# Altium schematic symbol library Vyrodov.SchLib: 217 symbols (part 2 of 2)
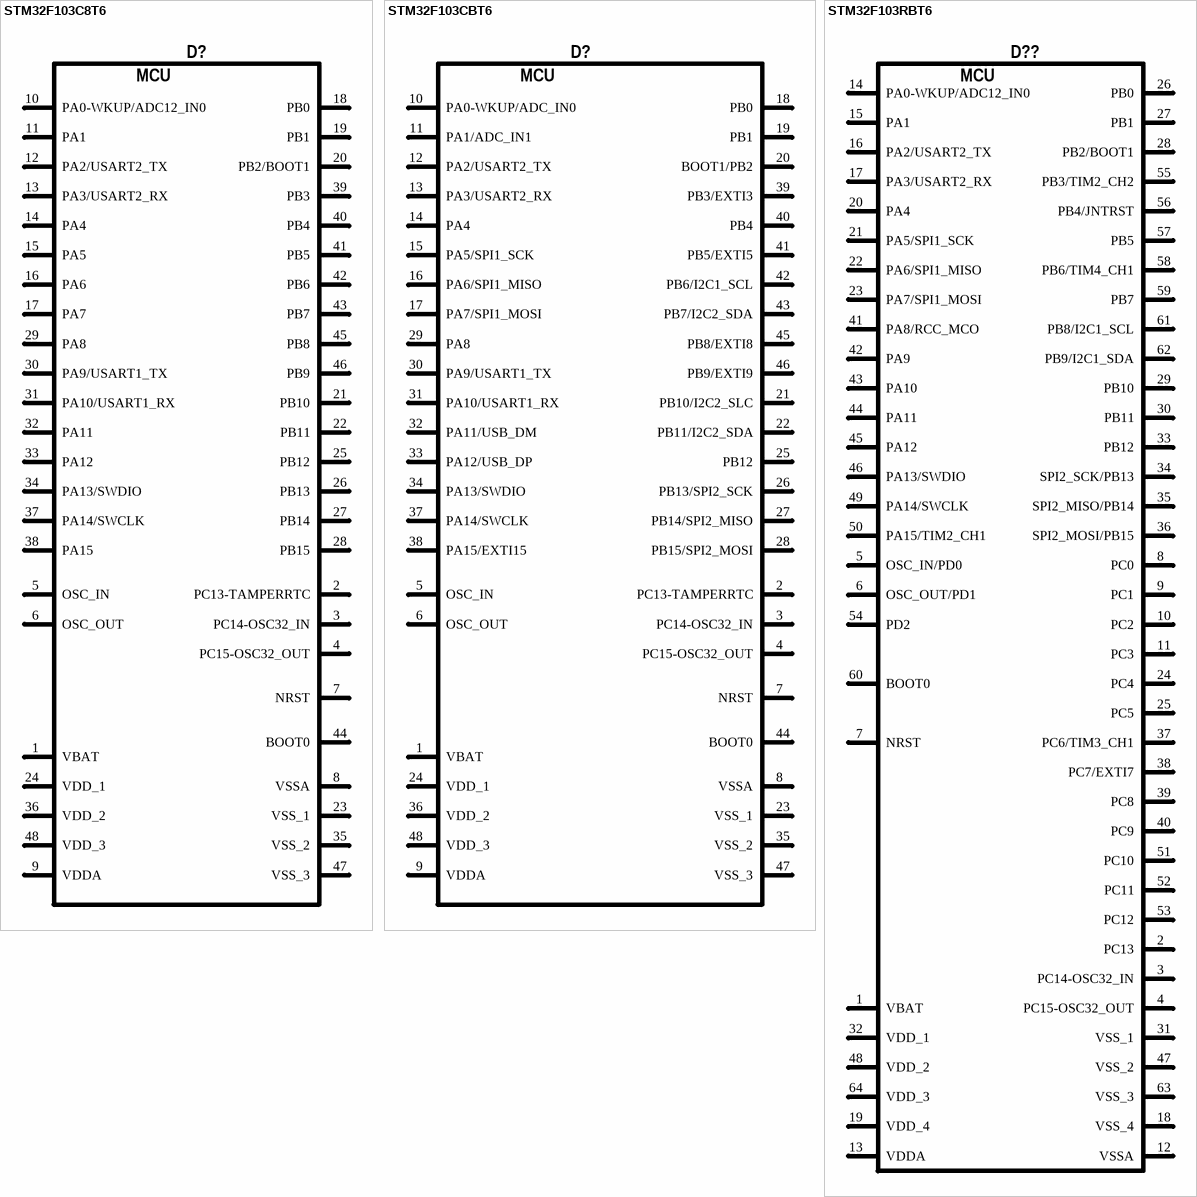
[diagram p29: symbols STM32F103C8T6 to STM32F103RBT6]

## STM32F103RBT6
designator D??  (value not drawn)
Value: STM32F103RBT6; SimpleValue: STM32F103RBT6
pins: 1 VBAT (power), 2 PC13, 3 PC14-OSC32_IN, 4 PC15-OSC32_OUT, 5 OSC_IN/PD0, 6 OSC_OUT/PD1, 7 NRST, 8 PC0, 9 PC1, 10 PC2, 11 PC3, 12 VSSA (power), 13 VDDA (power), 14 PA0-WKUP/ADC12_IN0, 15 PA1, 16 PA2/USART2_TX, 17 PA3/USART2_RX, 18 VSS_4 (power), 19 VDD_4 (power), 20 PA4, 21 PA5/SPI1_SCK, 22 PA6/SPI1_MISO, 23 PA7/SPI1_MOSI, 24 PC4, 25 PC5, 26 PB0, 27 PB1, 28 PB2/BOOT1, 29 PB10, 30 PB11, 31 VSS_1 (power), 32 VDD_1 (power), 33 PB12, 34 SPI2_SCK/PB13, 35 SPI2_MISO/PB14, 36 SPI2_MOSI/PB15, 37 PC6/TIM3_CH1, 38 PC7/EXTI7, 39 PC8, 40 PC9, 41 PA8/RCC_MCO, 42 PA9, 43 PA10, 44 PA11, 45 PA12, 46 PA13/SWDIO, 47 VSS_2 (power), 48 VDD_2 (power), 49 PA14/SWCLK, 50 PA15/TIM2_CH1, 51 PC10, 52 PC11, 53 PC12, 54 PD2, 55 PB3/TIM2_CH2, 56 PB4/JNTRST, 57 PB5, 58 PB6/TIM4_CH1, 59 PB7, 60 BOOT0, 61 PB8/I2C1_SCL, 62 PB9/I2C1_SDA, 63 VSS_3 (power), 64 VDD_3 (power)
text: MCU

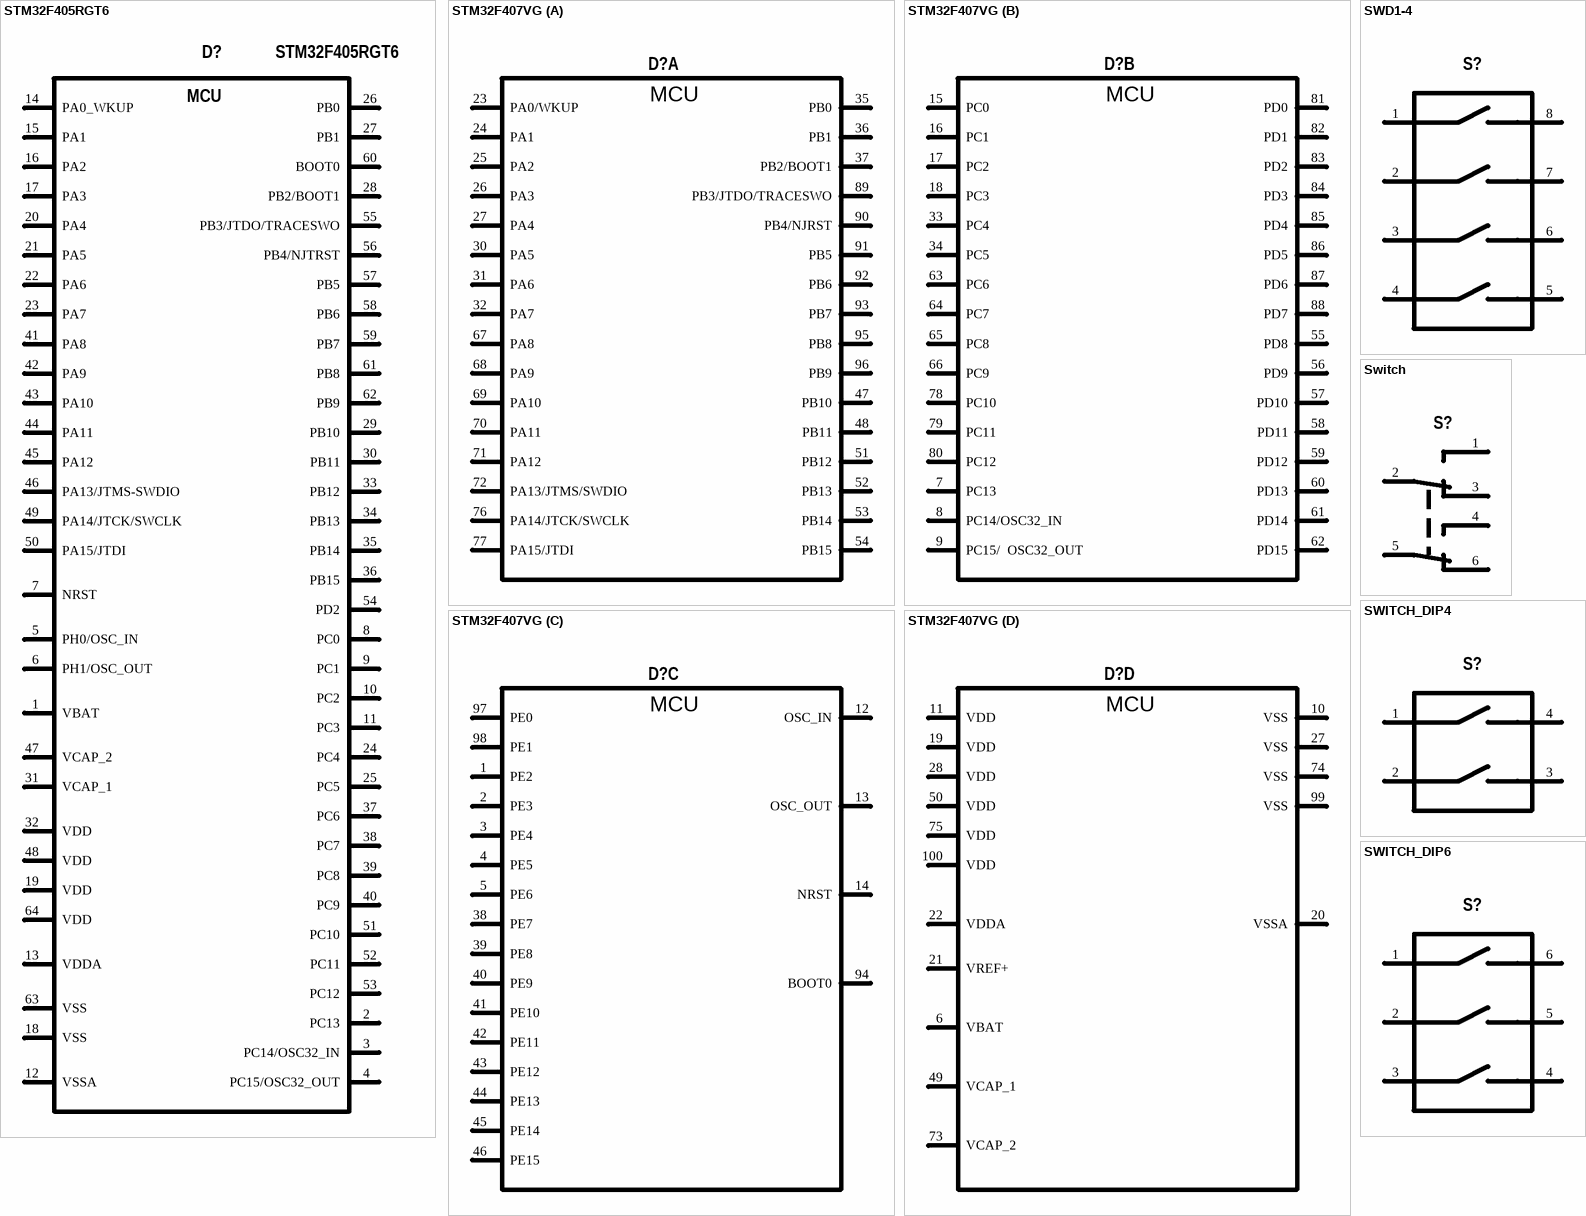
[diagram p17: symbols STM32F405RGT6 to SWITCH_DIP6]

## STM32F405RGT6
designator D?
Value: STM32F405RGT6
pins: 1 VBAT, 2 PC13, 3 PC14/OSC32_IN, 4 PC15/OSC32_OUT, 5 PH0/OSC_IN, 6 PH1/OSC_OUT, 7 NRST, 8 PC0, 9 PC1, 10 PC2, 11 PC3, 12 VSSA, 13 VDDA, 14 PA0_WKUP, 15 PA1, 16 PA2, 17 PA3, 18 VSS, 19 VDD, 20 PA4, 21 PA5, 22 PA6, 23 PA7, 24 PC4, 25 PC5, 26 PB0, 27 PB1, 28 PB2/BOOT1, 29 PB10, 30 PB11, 31 VCAP_1, 32 VDD, 33 PB12, 34 PB13, 35 PB14, 36 PB15, 37 PC6, 38 PC7, 39 PC8, 40 PC9, 41 PA8, 42 PA9, 43 PA10, 44 PA11, 45 PA12, 46 PA13/JTMS-SWDIO, 47 VCAP_2, 48 VDD, 49 PA14/JTCK/SWCLK, 50 PA15/JTDI, 51 PC10, 52 PC11, 53 PC12, 54 PD2, 55 PB3/JTDO/TRACESWO, 56 PB4/NJTRST, 57 PB5, 58 PB6, 59 PB7, 60 BOOT0, 61 PB8, 62 PB9, 63 VSS, 64 VDD
text: MCU

## STM32F407VG
designator D?, comment STM32F407VGT6  (value not drawn)
Value: STM32F407VGT6
part A pins: 23 PA0/WKUP, 24 PA1, 25 PA2, 26 PA3, 27 PA4, 30 PA5, 31 PA6, 32 PA7, 35 PB0, 36 PB1, 37 PB2/BOOT1, 47 PB10, 48 PB11, 51 PB12, 52 PB13, 53 PB14, 54 PB15, 67 PA8, 68 PA9, 69 PA10, 70 PA11, 71 PA12, 72 PA13/JTMS/SWDIO, 76 PA14/JTCK/SWCLK, 77 PA15/JTDI, 89 PB3/JTDO/TRACESWO, 90 PB4/NJRST, 91 PB5, 92 PB6, 93 PB7, 95 PB8, 96 PB9
part B pins: 7 PC13, 8 PC14/OSC32_IN, 9 PC15/  OSC32_OUT, 15 PC0, 16 PC1, 17 PC2, 18 PC3, 33 PC4, 34 PC5, 55 PD8, 56 PD9, 57 PD10, 58 PD11, 59 PD12, 60 PD13, 61 PD14, 62 PD15, 63 PC6, 64 PC7, 65 PC8, 66 PC9, 78 PC10, 79 PC11, 80 PC12, 81 PD0, 82 PD1, 83 PD2, 84 PD3, 85 PD4, 86 PD5, 87 PD6, 88 PD7
part C pins: 1 PE2, 2 PE3, 3 PE4, 4 PE5, 5 PE6, 12 OSC_IN, 13 OSC_OUT, 14 NRST, 38 PE7, 39 PE8, 40 PE9, 41 PE10, 42 PE11, 43 PE12, 44 PE13, 45 PE14, 46 PE15, 94 BOOT0, 97 PE0, 98 PE1
part D pins: 6 VBAT, 10 VSS, 11 VDD, 19 VDD, 20 VSSA, 21 VREF+, 22 VDDA, 27 VSS, 28 VDD, 49 VCAP_1, 50 VDD, 73 VCAP_2, 74 VSS, 75 VDD, 99 VSS, 100 VDD
part A text: MCU
part B text: MCU
part C text: MCU
part D text: MCU

## SWD1-4
designator S?, comment Выключатель SWD1-4  (value not drawn)
Value: Выключатель SWD1-4
footprint SWD1-4 (Footprint not found)
pins: 1, 2, 3, 4, 5, 6, 7, 8

## Switch
designator S?, comment Кнопка PBM-0112 (B170K)  (value not drawn)
Value: Кнопка PBM-0112 (B170K)
footprint SWT-9
pins: 1, 2, 3, 4, 5, 6

## SWITCH_DIP4
designator S?, comment DS1040-02RT  (value not drawn)
Value: DS1040-02RT
footprint SWD1-4 (Footprint not found)
pins: 1, 2, 3, 4

## SWITCH_DIP6
designator S?, comment DS1040-03RT  (value not drawn)
Value: DS1040-03RT
footprint SWD1-4 (Footprint not found)
pins: 1, 2, 3, 4, 5, 6

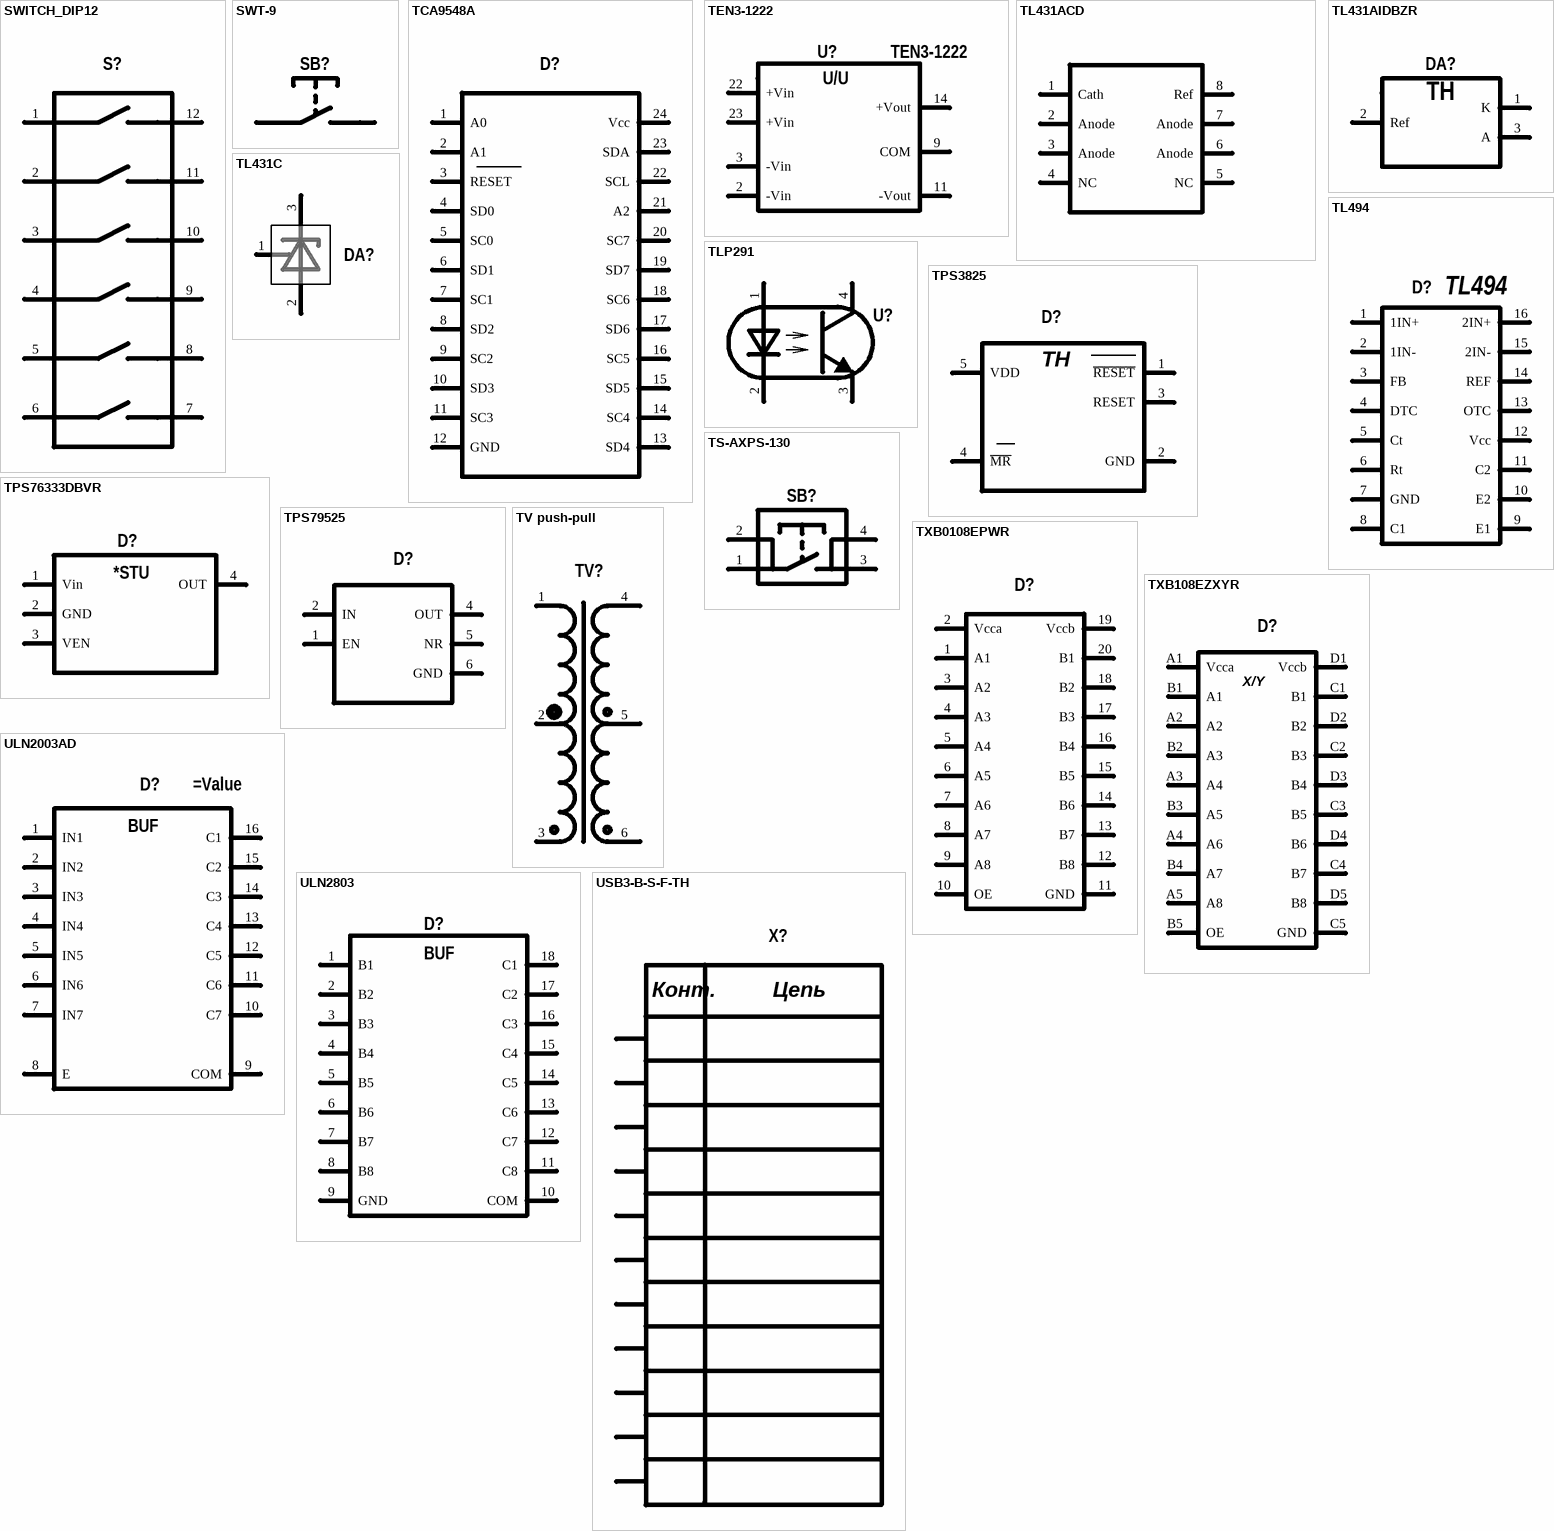
[diagram p18: symbols SWITCH_DIP12 to USB3-B-S-F-TH]

## SWITCH_DIP12
designator S?, comment DS1040-06RT  (value not drawn)
Value: DS1040-06RT
footprint SWD1-4 (Footprint not found)
pins: 1, 2, 3, 4, 5, 6, 7, 8, 9, 10, 11, 12

## SWT-9
designator SB?, comment Кнопка тактовая SWT-9  (value not drawn)
Value: Кнопка тактовая SWT-9
footprint SWT-9
pins: 1, 2

## TCA9548A
designator D?  (value not drawn)
Value: TCA9548APW
footprint PW-24 (TSOP, 24-Leads, Body 7,9x4,5mm (max), Pitch 0,65mm, IPC Medium Density)
pins: 1 A0, 2 A1, 3 RESET, 4 SD0, 5 SC0, 6 SD1, 7 SC1, 8 SD2, 9 SC2, 10 SD3, 11 SC3, 12 GND, 13 SD4, 14 SC4, 15 SD5, 16 SC5, 17 SD6, 18 SC6, 19 SD7, 20 SC7, 21 A2, 22 SCL, 23 SDA, 24 Vcc

## TEN3-1222
designator U?
Value: TEN3-1222
pins: 2 -Vin, 3 -Vin, 9 COM, 11 -Vout, 14 +Vout, 22 +Vin, 23 +Vin
text: U/U

## TL431ACD
designator D?  (value not drawn)
Type: TL431ACD; Value: TL431ACD
footprint 751-05_N (8-Pin Small Outline Integrated Circuit 1.27 mm Pitch, IPC Medium Density)
pins: 1 Cath, 2 Anode, 3 Anode, 4 NC, 5 NC, 6 Anode, 7 Anode, 8 Ref

## TL431AIDBZR
designator DA?  (value not drawn)
Value: TL431AIDBZR
footprint TO-92 (Footprint not found)
pins: 1 K, 2 Ref, 3 A
text: TH

## TL431C
designator DA?  (value not drawn)
Value: TL431C
footprint TO-92 (Footprint not found)
pins: 1 Ref, 2 A, 3 K

## TL494
designator D?  value TL494  (hidden comment: *)
footprint SO-16 (Footprint not found)
pins: 1 1IN+, 2 1IN-, 3 FB, 4 DTC, 5 Ct, 6 Rt, 7 GND, 8 C1, 9 E1, 10 E2, 11 C2, 12 Vcc, 13 OTC, 14 REF, 15 2IN-, 16 2IN+

## TLP291
designator U?  (value not drawn)
Opto Relay 35 Ohm 350 V; Vaue: TLP291
pins: 1 A, 2 K, 3 E, 4 C

## TPS3825
designator D?  (value not drawn)
Value: TPS3825-33DBVT
footprint SOT23-5AM (SOT23, 5-Leads, Body 2.9x1.7mm, Pitch 0.95mm, Lead Span 2.8mm, IPC Low Density)
pins: 1 ~{RESET}, 2 GND (power), 3 RESET, 4 ~{MR}, 5 VDD (power)
text: TH

## TPS76333DBVR
designator D?  (value not drawn)
Value: TPS76333DBVR
footprint DBV (Footprint not found)
pins: 1 Vin, 2 GND, 3 VEN, 4 OUT
text: *STU

## TPS79525
designator D?  (value not drawn)
footprint SOT223_6
pins: 1 EN, 2 IN, 3 GND hidden to GNDA, 4 OUT, 5 NR, 6 GND

## TS-AXPS-130
designator SB?, comment Кнопка тактовая TS-A3PS-130  (value not drawn)
Value: Кнопка тактовая TS-A3PS-130
footprint TS-AXPS-130
pins: 1, 2, 3, 4

## TV push-pull
designator TV?  (value not drawn)
Value: Trans Push-Pull
pins: 1, 2, 3, 4, 5, 6

## TXB0108EPWR
designator D?  (value not drawn)
footprint PW020 (Shrink Small Outline; 20 Leads; Body Width 4.4 mm; Pitch 0.65 mm)
pins: 1 A1, 2 Vcca, 3 A2, 4 A3, 5 A4, 6 A5, 7 A6, 8 A7, 9 A8, 10 OE, 11 GND, 12 B8, 13 B7, 14 B6, 15 B5, 16 B4, 17 B3, 18 B2, 19 Vccb, 20 B1

## TXB108EZXYR
designator D?, comment TXS108EZXYR  (value not drawn)
Value: TXS108EZXYR
pins: A1 Vcca, A2, A3 A4, A4 A6, A5 A8, B1 A1, B2 A3, B3 A5, B4 A7, B5 OE, C1 B1, C2 B3, C3 B5, C4 B7, C5 GND, D1 Vccb, D2 B2, D3 B4, D4 B6, D5 B8
text: X/Y

## ULN2003AD
designator D?
pins: 1 IN1, 2 IN2, 3 IN3, 4 IN4, 5 IN5, 6 IN6, 7 IN7, 8 E, 9 COM, 10 C7, 11 C6, 12 C5, 13 C4, 14 C3, 15 C2, 16 C1
text: BUF

## ULN2803
designator D?, comment ULN2803G  (value not drawn)
Value: ULN2803G
pins: 1 B1, 2 B2, 3 B3, 4 B4, 5 B5, 6 B6, 7 B7, 8 B8, 9 GND, 10 COM, 11 C8, 12 C7, 13 C6, 14 C5, 15 C4, 16 C3, 17 C2, 18 C1
text: BUF

## USB3-B-S-F-TH
designator X?  (value not drawn)
Value: Розетка USB3-B-S-F-TH
footprint USB3-B (Footprint not found)
pins: 1, 2, 3, 4, 5, 6, 7, 8, 9, 10, 11
text: Конт.; Цепь

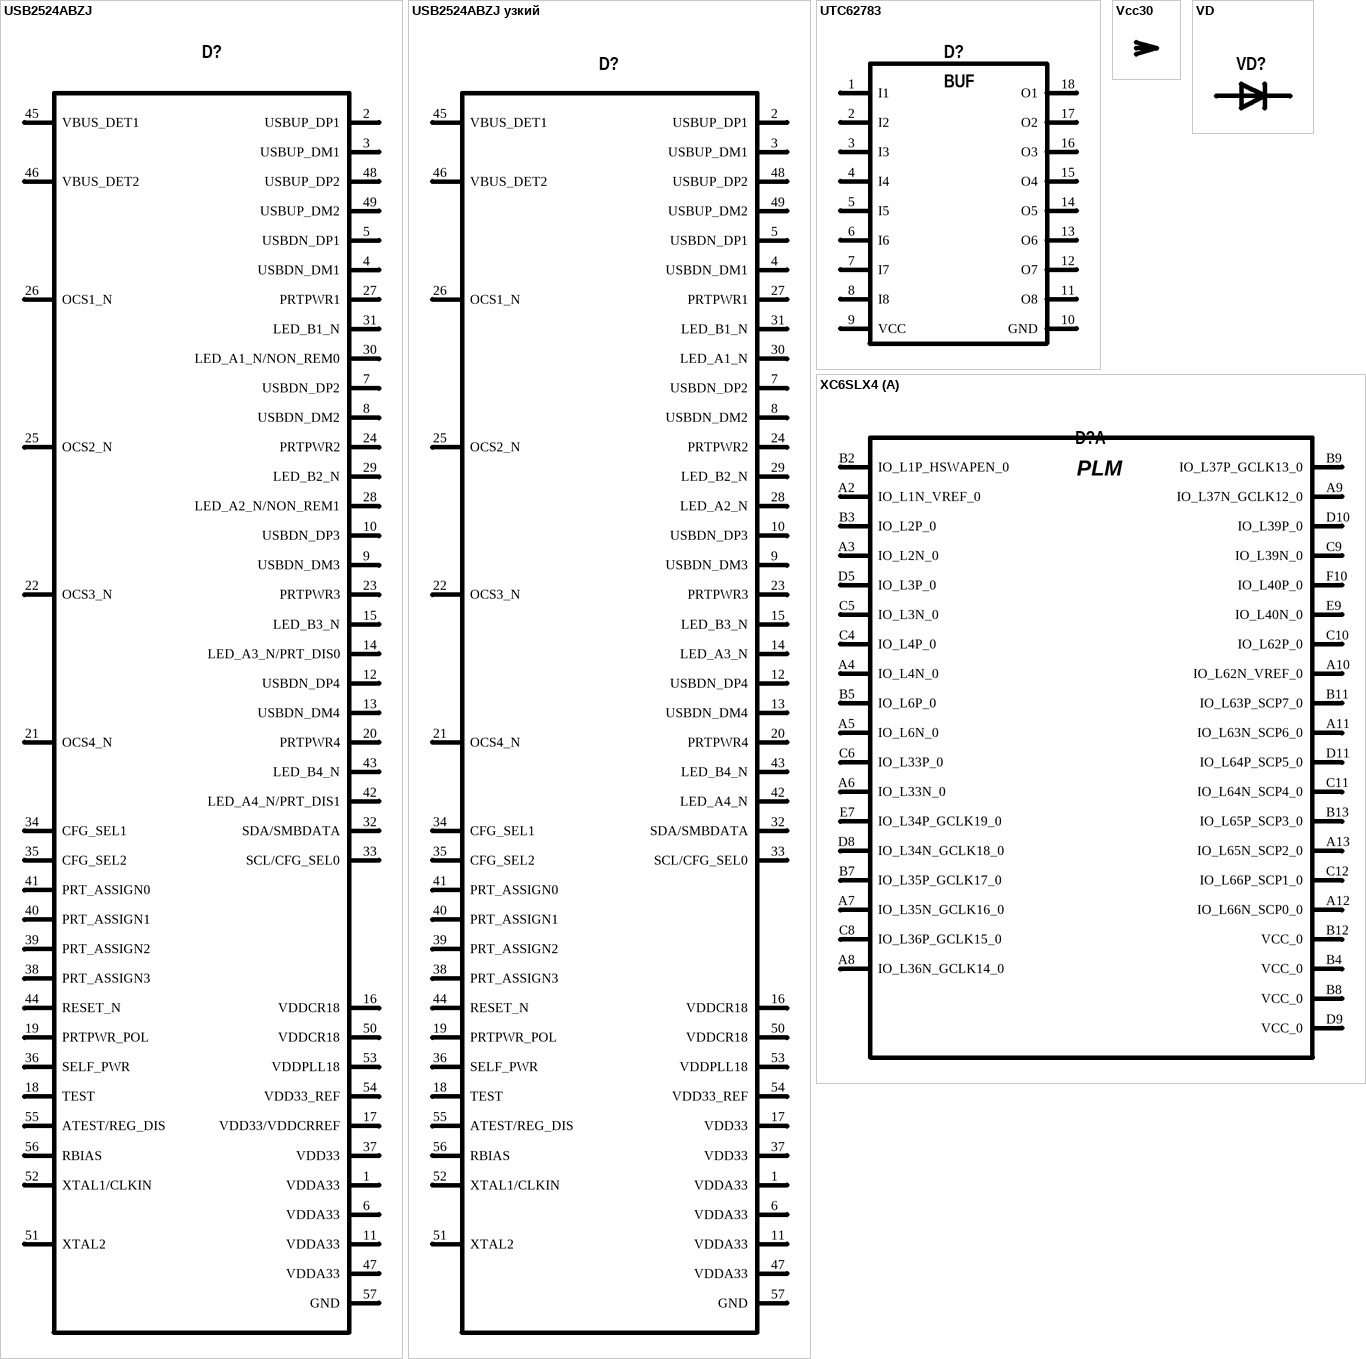
[diagram p19: symbols USB2524ABZJ to XC6SLX4]

## USB2524ABZJ
designator D?  (value not drawn)
Value: USB2524ABZJ
footprint QFN50P800X800X100-56N (QFN, 56-Leads, Body 8,1x8,1mm (max), Pitch 0,50mm, IPC Medium Density)
pins: 1 VDDA33, 2 USBUP_DP1, 3 USBUP_DM1, 4 USBDN_DM1, 5 USBDN_DP1, 6 VDDA33, 7 USBDN_DP2, 8 USBDN_DM2, 9 USBDN_DM3, 10 USBDN_DP3, 11 VDDA33, 12 USBDN_DP4, 13 USBDN_DM4, 14 LED_A3_N/PRT_DIS0, 15 LED_B3_N, 16 VDDCR18, 17 VDD33/VDDCRREF, 18 TEST, 19 PRTPWR_POL, 20 PRTPWR4, 21 OCS4_N, 22 OCS3_N, 23 PRTPWR3, 24 PRTPWR2, 25 OCS2_N, 26 OCS1_N, 27 PRTPWR1, 28 LED_A2_N/NON_REM1, 29 LED_B2_N, 30 LED_A1_N/NON_REM0, 31 LED_B1_N, 32 SDA/SMBDATA, 33 SCL/CFG_SEL0, 34 CFG_SEL1, 35 CFG_SEL2, 36 SELF_PWR, 37 VDD33, 38 PRT_ASSIGN3, 39 PRT_ASSIGN2, 40 PRT_ASSIGN1, 41 PRT_ASSIGN0, 42 LED_A4_N/PRT_DIS1, 43 LED_B4_N, 44 RESET_N, 45 VBUS_DET1, 46 VBUS_DET2, 47 VDDA33, 48 USBUP_DP2, 49 USBUP_DM2, 50 VDDCR18, 51 XTAL2, 52 XTAL1/CLKIN, 53 VDDPLL18, 54 VDD33_REF, 55 ATEST/REG_DIS, 56 RBIAS, 57 GND

## USB2524ABZJ узкий
designator D?, comment USB2524ABZJ  (value not drawn)
Value: USB2524ABZJ
footprint QFN50P800X800X100-56N (QFN, 56-Leads, Body 8,1x8,1mm (max), Pitch 0,50mm, IPC Medium Density)
pins: 1 VDDA33, 2 USBUP_DP1, 3 USBUP_DM1, 4 USBDN_DM1, 5 USBDN_DP1, 6 VDDA33, 7 USBDN_DP2, 8 USBDN_DM2, 9 USBDN_DM3, 10 USBDN_DP3, 11 VDDA33, 12 USBDN_DP4, 13 USBDN_DM4, 14 LED_A3_N, 15 LED_B3_N, 16 VDDCR18, 17 VDD33, 18 TEST, 19 PRTPWR_POL, 20 PRTPWR4, 21 OCS4_N, 22 OCS3_N, 23 PRTPWR3, 24 PRTPWR2, 25 OCS2_N, 26 OCS1_N, 27 PRTPWR1, 28 LED_A2_N, 29 LED_B2_N, 30 LED_A1_N, 31 LED_B1_N, 32 SDA/SMBDATA, 33 SCL/CFG_SEL0, 34 CFG_SEL1, 35 CFG_SEL2, 36 SELF_PWR, 37 VDD33, 38 PRT_ASSIGN3, 39 PRT_ASSIGN2, 40 PRT_ASSIGN1, 41 PRT_ASSIGN0, 42 LED_A4_N, 43 LED_B4_N, 44 RESET_N, 45 VBUS_DET1, 46 VBUS_DET2, 47 VDDA33, 48 USBUP_DP2, 49 USBUP_DM2, 50 VDDCR18, 51 XTAL2, 52 XTAL1/CLKIN, 53 VDDPLL18, 54 VDD33_REF, 55 ATEST/REG_DIS, 56 RBIAS, 57 GND

## UTC62783
designator D?, comment UTC62783G  (value not drawn)
Value: UTC62783G
pins: 1 I1, 2 I2, 3 I3, 4 I4, 5 I5, 6 I6, 7 I7, 8 I8, 9 VCC, 10 GND, 11 O8, 12 O7, 13 O6, 14 O5, 15 O4, 16 O3, 17 O2, 18 O1
text: BUF

## Vcc30
designator *  (value not drawn)  (graphical)

## VD
designator VD?  (value not drawn)
Value: Диод LL4448
footprint SOD80C
pins: A, K

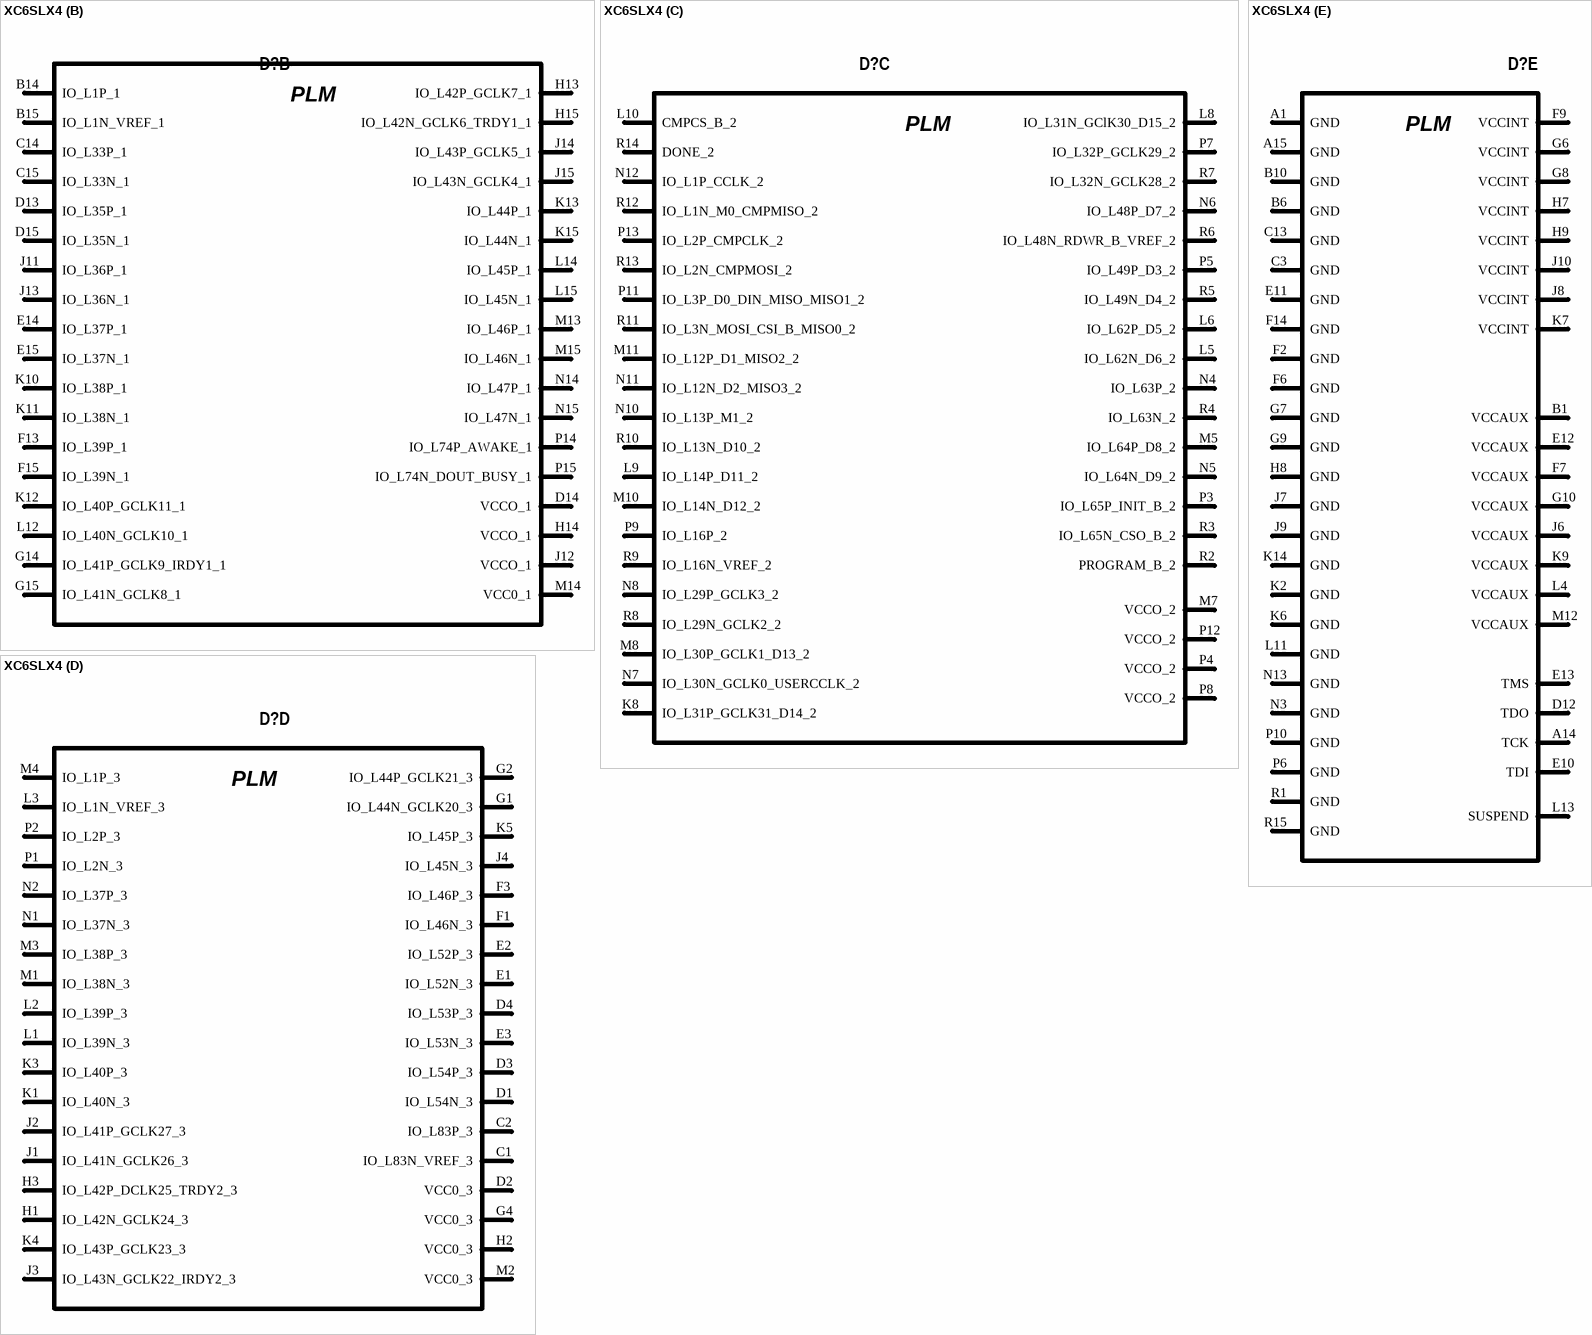
[diagram p20: symbol XC6SLX4]

## XC6SLX4
designator D?  (value not drawn)
Value: XC6SLX4-3CSG225
footprint CSG225 (Footprint not found)
part A pins: A2 IO_L1N_VREF_0, A3 IO_L2N_0, A4 IO_L4N_0, A5 IO_L6N_0, A6 IO_L33N_0, A7 IO_L35N_GCLK16_0, A8 IO_L36N_GCLK14_0, A9 IO_L37N_GCLK12_0, A10 IO_L62N_VREF_0, A11 IO_L63N_SCP6_0, A12 IO_L66N_SCP0_0, A13 IO_L65N_SCP2_0, B2 IO_L1P_HSWAPEN_0, B3 IO_L2P_0, B4 VCC_0, B5 IO_L6P_0, B7 IO_L35P_GCLK17_0, B8 VCC_0, B9 IO_L37P_GCLK13_0, B11 IO_L63P_SCP7_0, B12 VCC_0, B13 IO_L65P_SCP3_0, C4 IO_L4P_0, C5 IO_L3N_0, C6 IO_L33P_0, C8 IO_L36P_GCLK15_0, C9 IO_L39N_0, C10 IO_L62P_0, C11 IO_L64N_SCP4_0, C12 IO_L66P_SCP1_0, D5 IO_L3P_0, D8 IO_L34N_GCLK18_0, D9 VCC_0, D10 IO_L39P_0, D11 IO_L64P_SCP5_0, E7 IO_L34P_GCLK19_0, E9 IO_L40N_0, F10 IO_L40P_0
part B pins: B14 IO_L1P_1, B15 IO_L1N_VREF_1, C14 IO_L33P_1, C15 IO_L33N_1, D13 IO_L35P_1, D14 VCCO_1, D15 IO_L35N_1, E14 IO_L37P_1, E15 IO_L37N_1, F13 IO_L39P_1, F15 IO_L39N_1, G14 IO_L41P_GCLK9_IRDY1_1, G15 IO_L41N_GCLK8_1, H13 IO_L42P_GCLK7_1, H14 VCCO_1, H15 IO_L42N_GCLK6_TRDY1_1, J11 IO_L36P_1, J12 VCCO_1, J13 IO_L36N_1, J14 IO_L43P_GCLK5_1, J15 IO_L43N_GCLK4_1, K10 IO_L38P_1, K11 IO_L38N_1, K12 IO_L40P_GCLK11_1, K13 IO_L44P_1, K15 IO_L44N_1, L12 IO_L40N_GCLK10_1, L14 IO_L45P_1, L15 IO_L45N_1, M13 IO_L46P_1, M14 VCC0_1, M15 IO_L46N_1, N14 IO_L47P_1, N15 IO_L47N_1, P14 IO_L74P_AWAKE_1, P15 IO_L74N_DOUT_BUSY_1
part C pins: K8 IO_L31P_GCLK31_D14_2, L5 IO_L62N_D6_2, L6 IO_L62P_D5_2, L8 IO_L31N_GClK30_D15_2, L9 IO_L14P_D11_2, L10 CMPCS_B_2, M5 IO_L64P_D8_2, M7 VCCO_2, M8 IO_L30P_GCLK1_D13_2, M10 IO_L14N_D12_2, M11 IO_L12P_D1_MISO2_2, N4 IO_L63P_2, N5 IO_L64N_D9_2, N6 IO_L48P_D7_2, N7 IO_L30N_GCLK0_USERCCLK_2, N8 IO_L29P_GCLK3_2, N10 IO_L13P_M1_2, N11 IO_L12N_D2_MISO3_2, N12 IO_L1P_CCLK_2, P3 IO_L65P_INIT_B_2, P4 VCCO_2, P5 IO_L49P_D3_2, P7 IO_L32P_GCLK29_2, P8 VCCO_2, P9 IO_L16P_2, P11 IO_L3P_D0_DIN_MISO_MISO1_2, P12 VCCO_2, P13 IO_L2P_CMPCLK_2, R2 PROGRAM_B_2, R3 IO_L65N_CSO_B_2, R4 IO_L63N_2, R5 IO_L49N_D4_2, R6 IO_L48N_RDWR_B_VREF_2, R7 IO_L32N_GCLK28_2, R8 IO_L29N_GCLK2_2, R9 IO_L16N_VREF_2, R10 IO_L13N_D10_2, R11 IO_L3N_MOSI_CSI_B_MISO0_2, R12 IO_L1N_M0_CMPMISO_2, R13 IO_L2N_CMPMOSI_2, R14 DONE_2
part D pins: C1 IO_L83N_VREF_3, C2 IO_L83P_3, D1 IO_L54N_3, D2 VCC0_3, D3 IO_L54P_3, D4 IO_L53P_3, E1 IO_L52N_3, E2 IO_L52P_3, E3 IO_L53N_3, F1 IO_L46N_3, F3 IO_L46P_3, G1 IO_L44N_GCLK20_3, G2 IO_L44P_GCLK21_3, G4 VCC0_3, H1 IO_L42N_GCLK24_3, H2 VCC0_3, H3 IO_L42P_DCLK25_TRDY2_3, J1 IO_L41N_GCLK26_3, J2 IO_L41P_GCLK27_3, J3 IO_L43N_GCLK22_IRDY2_3, J4 IO_L45N_3, K1 IO_L40N_3, K3 IO_L40P_3, K4 IO_L43P_GCLK23_3, K5 IO_L45P_3, L1 IO_L39N_3, L2 IO_L39P_3, L3 IO_L1N_VREF_3, M1 IO_L38N_3, M2 VCC0_3, M3 IO_L38P_3, M4 IO_L1P_3, N1 IO_L37N_3, N2 IO_L37P_3, P1 IO_L2N_3, P2 IO_L2P_3
part E pins: A1 GND, A14 TCK, A15 GND, B1 VCCAUX, B6 GND, B10 GND, C3 GND, C13 GND, D12 TDO, E10 TDI, E11 GND, E12 VCCAUX, E13 TMS, F2 GND, F6 GND, F7 VCCAUX, F9 VCCINT, F14 GND, G6 VCCINT, G7 GND, G8 VCCINT, G9 GND, G10 VCCAUX, H7 VCCINT, H8 GND, H9 VCCINT, J6 VCCAUX, J7 GND, J8 VCCINT, J9 GND, J10 VCCINT, K2 GND, K6 GND, K7 VCCINT, K9 VCCAUX, K14 GND, L4 VCCAUX, L11 GND, L13 SUSPEND, M12 VCCAUX, N3 GND, N13 GND, P6 GND, P10 GND, R1 GND, R15 GND
part A text: PLM
part B text: PLM
part C text: PLM
part D text: PLM
part E text: PLM

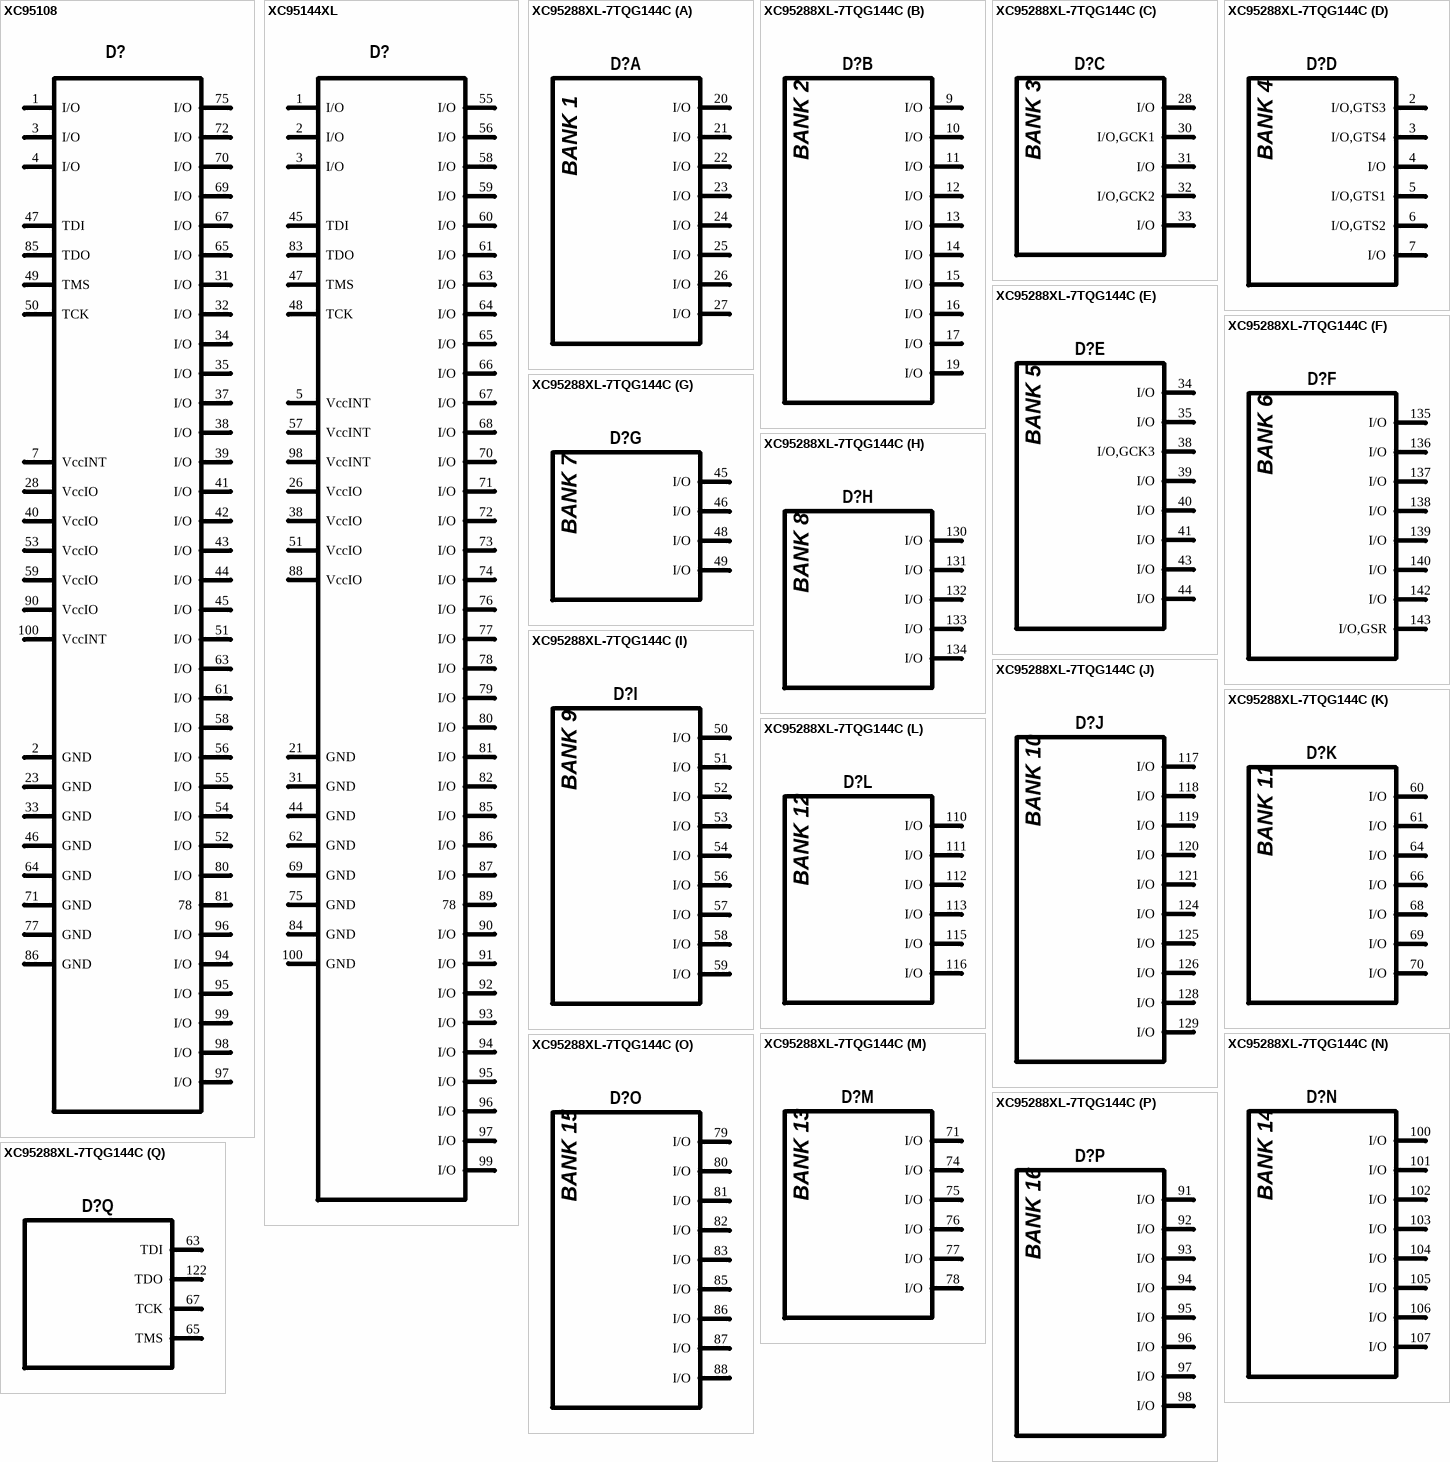
[diagram p21: symbols XC95108 to XC95288XL-7TQG144C]

## XC95108
designator D?  (value not drawn)
Value: XC95108
pins: 1 I/O, 2 GND, 3 I/O, 4 I/O, 7 VccINT, 23 GND, 28 VccIO, 31 I/O, 32 I/O, 33 GND, 34 I/O, 35 I/O, 37 I/O, 38 I/O, 39 I/O, 40 VccIO, 41 I/O, 42 I/O, 43 I/O, 44 I/O, 45 I/O, 46 GND, 47 TDI, 49 TMS, 50 TCK, 51 I/O, 52 I/O, 53 VccIO, 54 I/O, 55 I/O, 56 I/O, 58 I/O, 59 VccIO, 61 I/O, 63 I/O, 64 GND, 65 I/O, 67 I/O, 69 I/O, 70 I/O, 71 GND, 72 I/O, 75 I/O, 77 GND, 80 I/O, 81 78, 85 TDO, 86 GND, 90 VccIO, 94 I/O, 95 I/O, 96 I/O, 97 I/O, 98 I/O, 99 I/O, 100 VccINT

## XC95144XL
designator D?, comment XC95144  (value not drawn)
Value: XC95144
pins: 1 I/O, 2 I/O, 3 I/O, 5 VccINT, 21 GND, 26 VccIO, 31 GND, 38 VccIO, 44 GND, 45 TDI, 47 TMS, 48 TCK, 51 VccIO, 55 I/O, 56 I/O, 57 VccINT, 58 I/O, 59 I/O, 60 I/O, 61 I/O, 62 GND, 63 I/O, 64 I/O, 65 I/O, 66 I/O, 67 I/O, 68 I/O, 69 GND, 70 I/O, 71 I/O, 72 I/O, 73 I/O, 74 I/O, 75 GND, 76 I/O, 77 I/O, 78 I/O, 79 I/O, 80 I/O, 81 I/O, 82 I/O, 83 TDO, 84 GND, 85 I/O, 86 I/O, 87 I/O, 88 VccIO, 89 78, 90 I/O, 91 I/O, 92 I/O, 93 I/O, 94 I/O, 95 I/O, 96 I/O, 97 I/O, 98 VccINT, 99 I/O, 100 GND

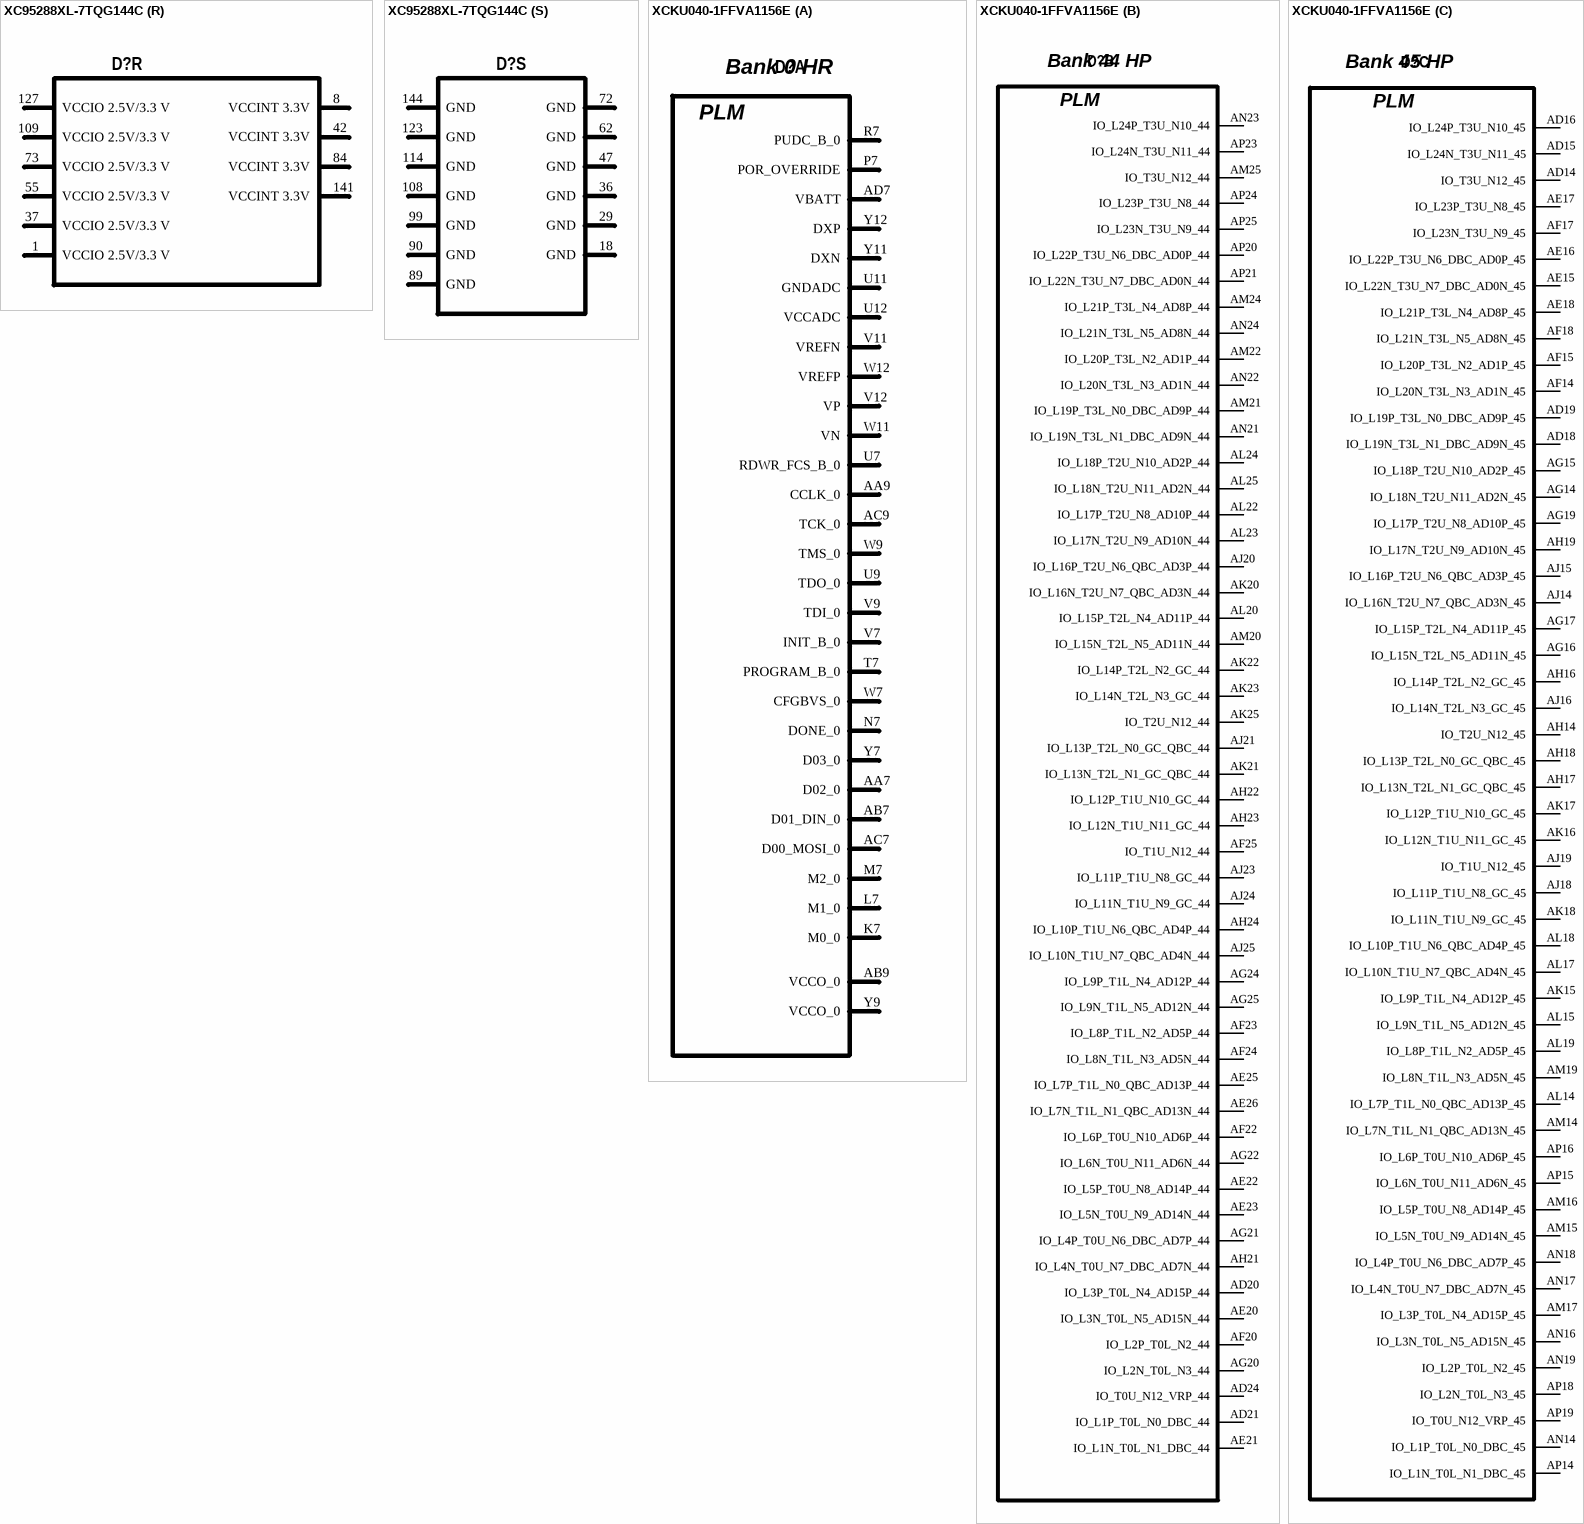
[diagram p22: symbols XC95288XL-7TQG144C to XCKU040-1FFVA1156E]

## XC95288XL-7TQG144C
designator D?  (value not drawn)
FastFLASH XC900XL, 3.3V High-Performance 288 Macrocell CPLD, 117 User I/Os, 144-Pin TQFP, Speed Grade 7, Commercial Grade, Pb-Free; DatasheetVersion: ver2.1, Apr-2007; PackageVersion: ver1.2, Jun-2004; PackageReference: TQG144; PackageDescription: 144-Pin Thin Quad Flat Pack (TQG144) - Pb-Free; Code_JEDEC: MS-026-BFB; ComponentLink1Description: Manufacturer URL; ComponentLink1URL: http://www.xilinx.com/; ComponentLink2Description: XC95288XL Datasheet; ComponentLink2URL: http://www.xilinx.com/support/documentation/data_sheets/ds055.pdf; ComponentLink3Description: TQG144 Package Drawing; ComponentLink3URL: http://www.xilinx.com/support/documentation/package_specs/tq144.pdf; ComponentLink4Description: XC9500XL Documents; ComponentLink4URL: http://www.xilinx.com/support/documentation/xc9500xl.htm; Value: XC95288XL-7TQG144C
footprint TQG144_N (Thin QFP, 144-Leads, Body 20x20mm, Pitch 0.5mm, IPC Medium Density)
footprint TQG144_L (Thin QFP, 144-Leads, Body 20x20mm, Pitch 0.5mm, IPC High Density)
footprint TQG144_M (Thin QFP, 144-Leads, Body 20x20mm, Pitch 0.5mm, IPC Low Density)
part A pins: 20 I/O, 21 I/O, 22 I/O, 23 I/O, 24 I/O, 25 I/O, 26 I/O, 27 I/O
part B pins: 9 I/O, 10 I/O, 11 I/O, 12 I/O, 13 I/O, 14 I/O, 15 I/O, 16 I/O, 17 I/O, 19 I/O
part C pins: 28 I/O, 30 I/O,GCK1, 31 I/O, 32 I/O,GCK2, 33 I/O
part D pins: 2 I/O,GTS3, 3 I/O,GTS4, 4 I/O, 5 I/O,GTS1, 6 I/O,GTS2, 7 I/O
part E pins: 34 I/O, 35 I/O, 38 I/O,GCK3, 39 I/O, 40 I/O, 41 I/O, 43 I/O, 44 I/O
part F pins: 135 I/O, 136 I/O, 137 I/O, 138 I/O, 139 I/O, 140 I/O, 142 I/O, 143 I/O,GSR
part G pins: 45 I/O, 46 I/O, 48 I/O, 49 I/O
part H pins: 130 I/O, 131 I/O, 132 I/O, 133 I/O, 134 I/O
part I pins: 50 I/O, 51 I/O, 52 I/O, 53 I/O, 54 I/O, 56 I/O, 57 I/O, 58 I/O, 59 I/O
part J pins: 117 I/O, 118 I/O, 119 I/O, 120 I/O, 121 I/O, 124 I/O, 125 I/O, 126 I/O, 128 I/O, 129 I/O
part K pins: 60 I/O, 61 I/O, 64 I/O, 66 I/O, 68 I/O, 69 I/O, 70 I/O
part L pins: 110 I/O, 111 I/O, 112 I/O, 113 I/O, 115 I/O, 116 I/O
part M pins: 71 I/O, 74 I/O, 75 I/O, 76 I/O, 77 I/O, 78 I/O
part N pins: 100 I/O, 101 I/O, 102 I/O, 103 I/O, 104 I/O, 105 I/O, 106 I/O, 107 I/O
part O pins: 79 I/O, 80 I/O, 81 I/O, 82 I/O, 83 I/O, 85 I/O, 86 I/O, 87 I/O, 88 I/O
part P pins: 91 I/O, 92 I/O, 93 I/O, 94 I/O, 95 I/O, 96 I/O, 97 I/O, 98 I/O
part Q pins: 63 TDI, 65 TMS, 67 TCK, 122 TDO
part R pins: 1 VCCIO 2.5V/3.3 V (power), 8 VCCINT 3.3V (power), 37 VCCIO 2.5V/3.3 V (power), 42 VCCINT 3.3V (power), 55 VCCIO 2.5V/3.3 V (power), 73 VCCIO 2.5V/3.3 V (power), 84 VCCINT 3.3V (power), 109 VCCIO 2.5V/3.3 V (power), 127 VCCIO 2.5V/3.3 V (power), 141 VCCINT 3.3V (power)
part S pins: 18 GND (power), 29 GND (power), 36 GND (power), 47 GND (power), 62 GND (power), 72 GND (power), 89 GND (power), 90 GND (power), 99 GND (power), 108 GND (power), 114 GND (power), 123 GND (power), 144 GND (power)
part A text: BANK 1
part B text: BANK 2
part C text: BANK 3
part D text: BANK 4
part E text: BANK 5
part F text: BANK 6
part G text: BANK 7
part H text: BANK 8
part I text: BANK 9
part J text: BANK 10
part K text: BANK 11
part L text: BANK 12
part M text: BANK 13
part N text: BANK 14
part O text: BANK 15
part P text: BANK 16

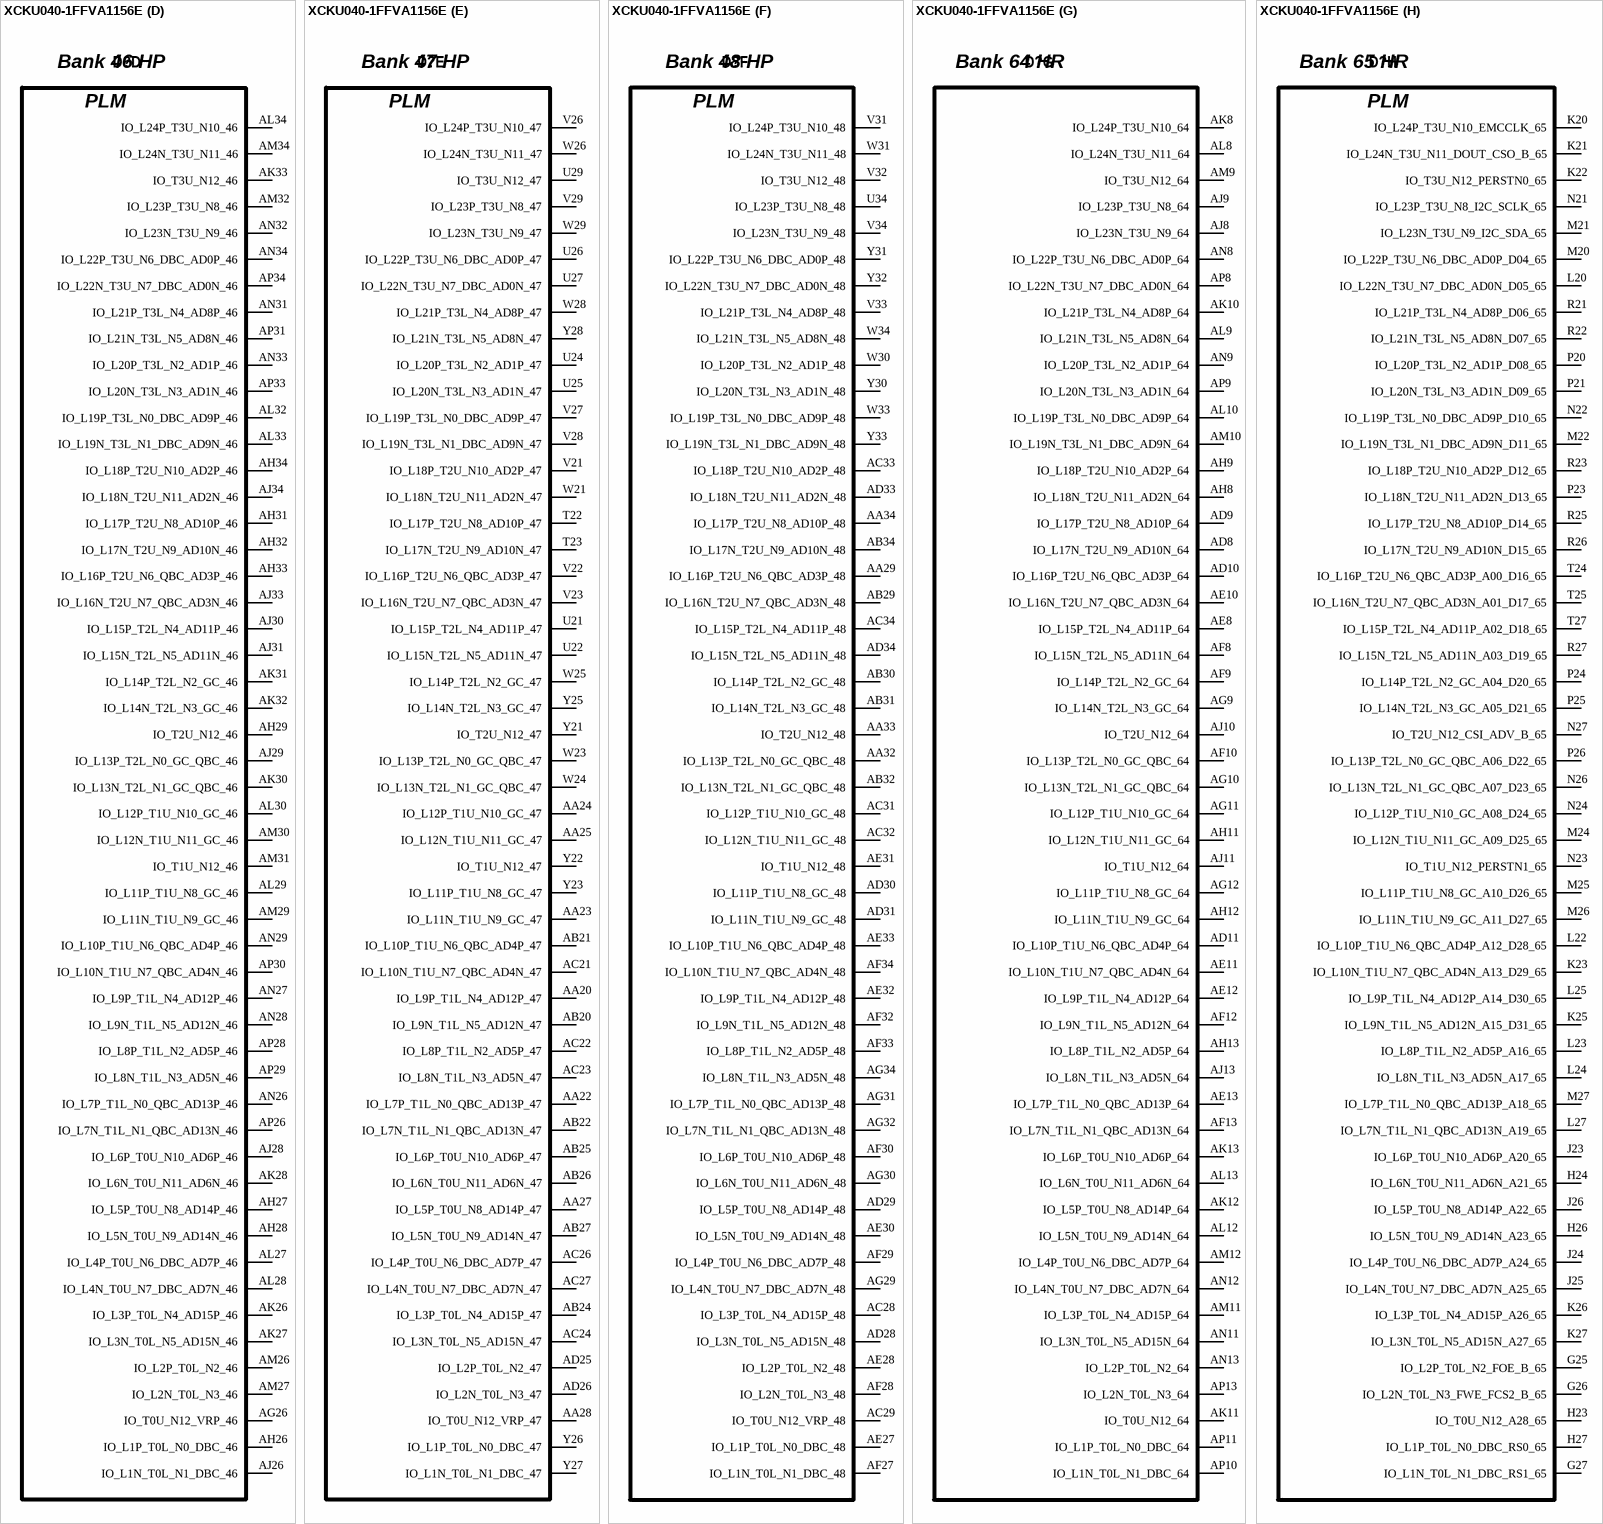
[diagram p23: symbol XCKU040-1FFVA1156E]

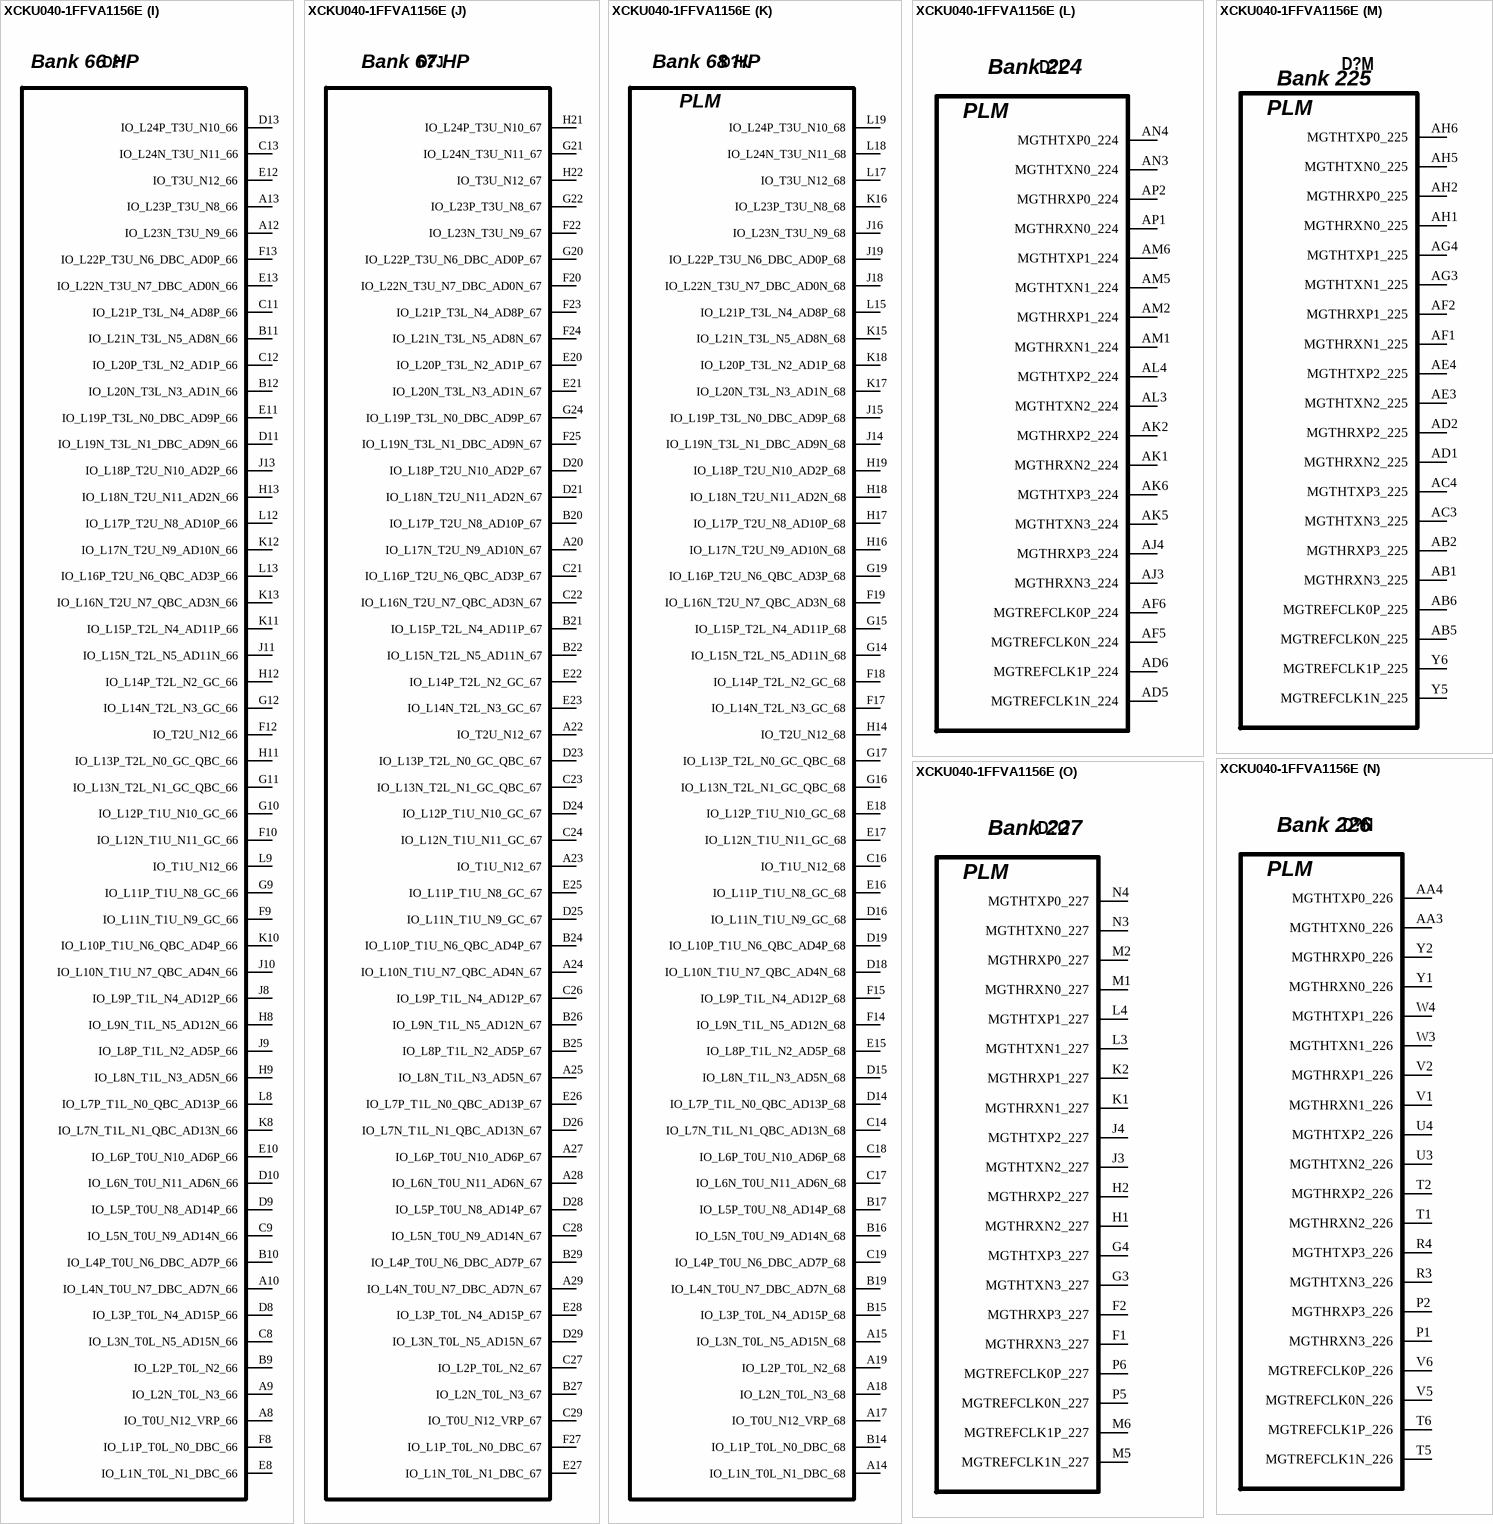
[diagram p24: symbol XCKU040-1FFVA1156E]

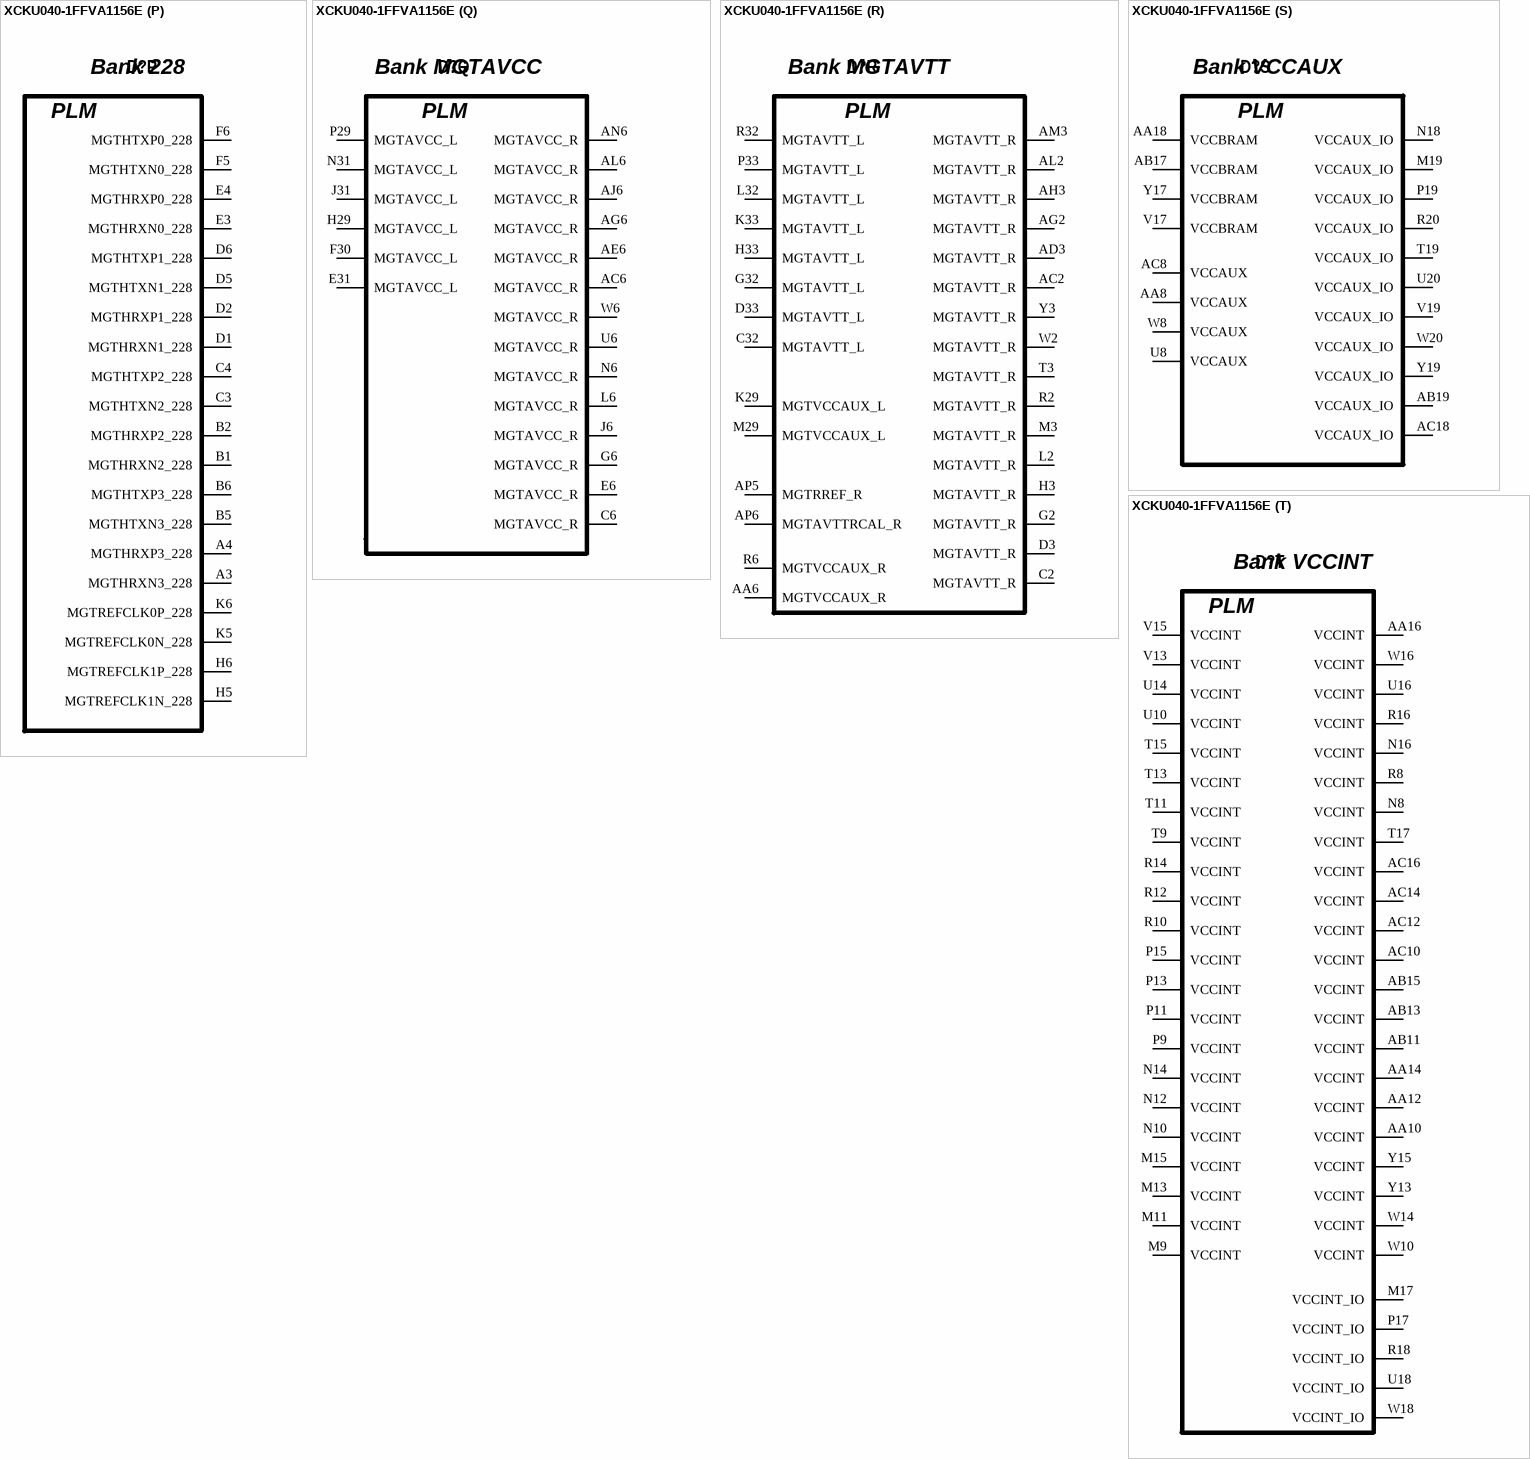
[diagram p25: symbol XCKU040-1FFVA1156E]

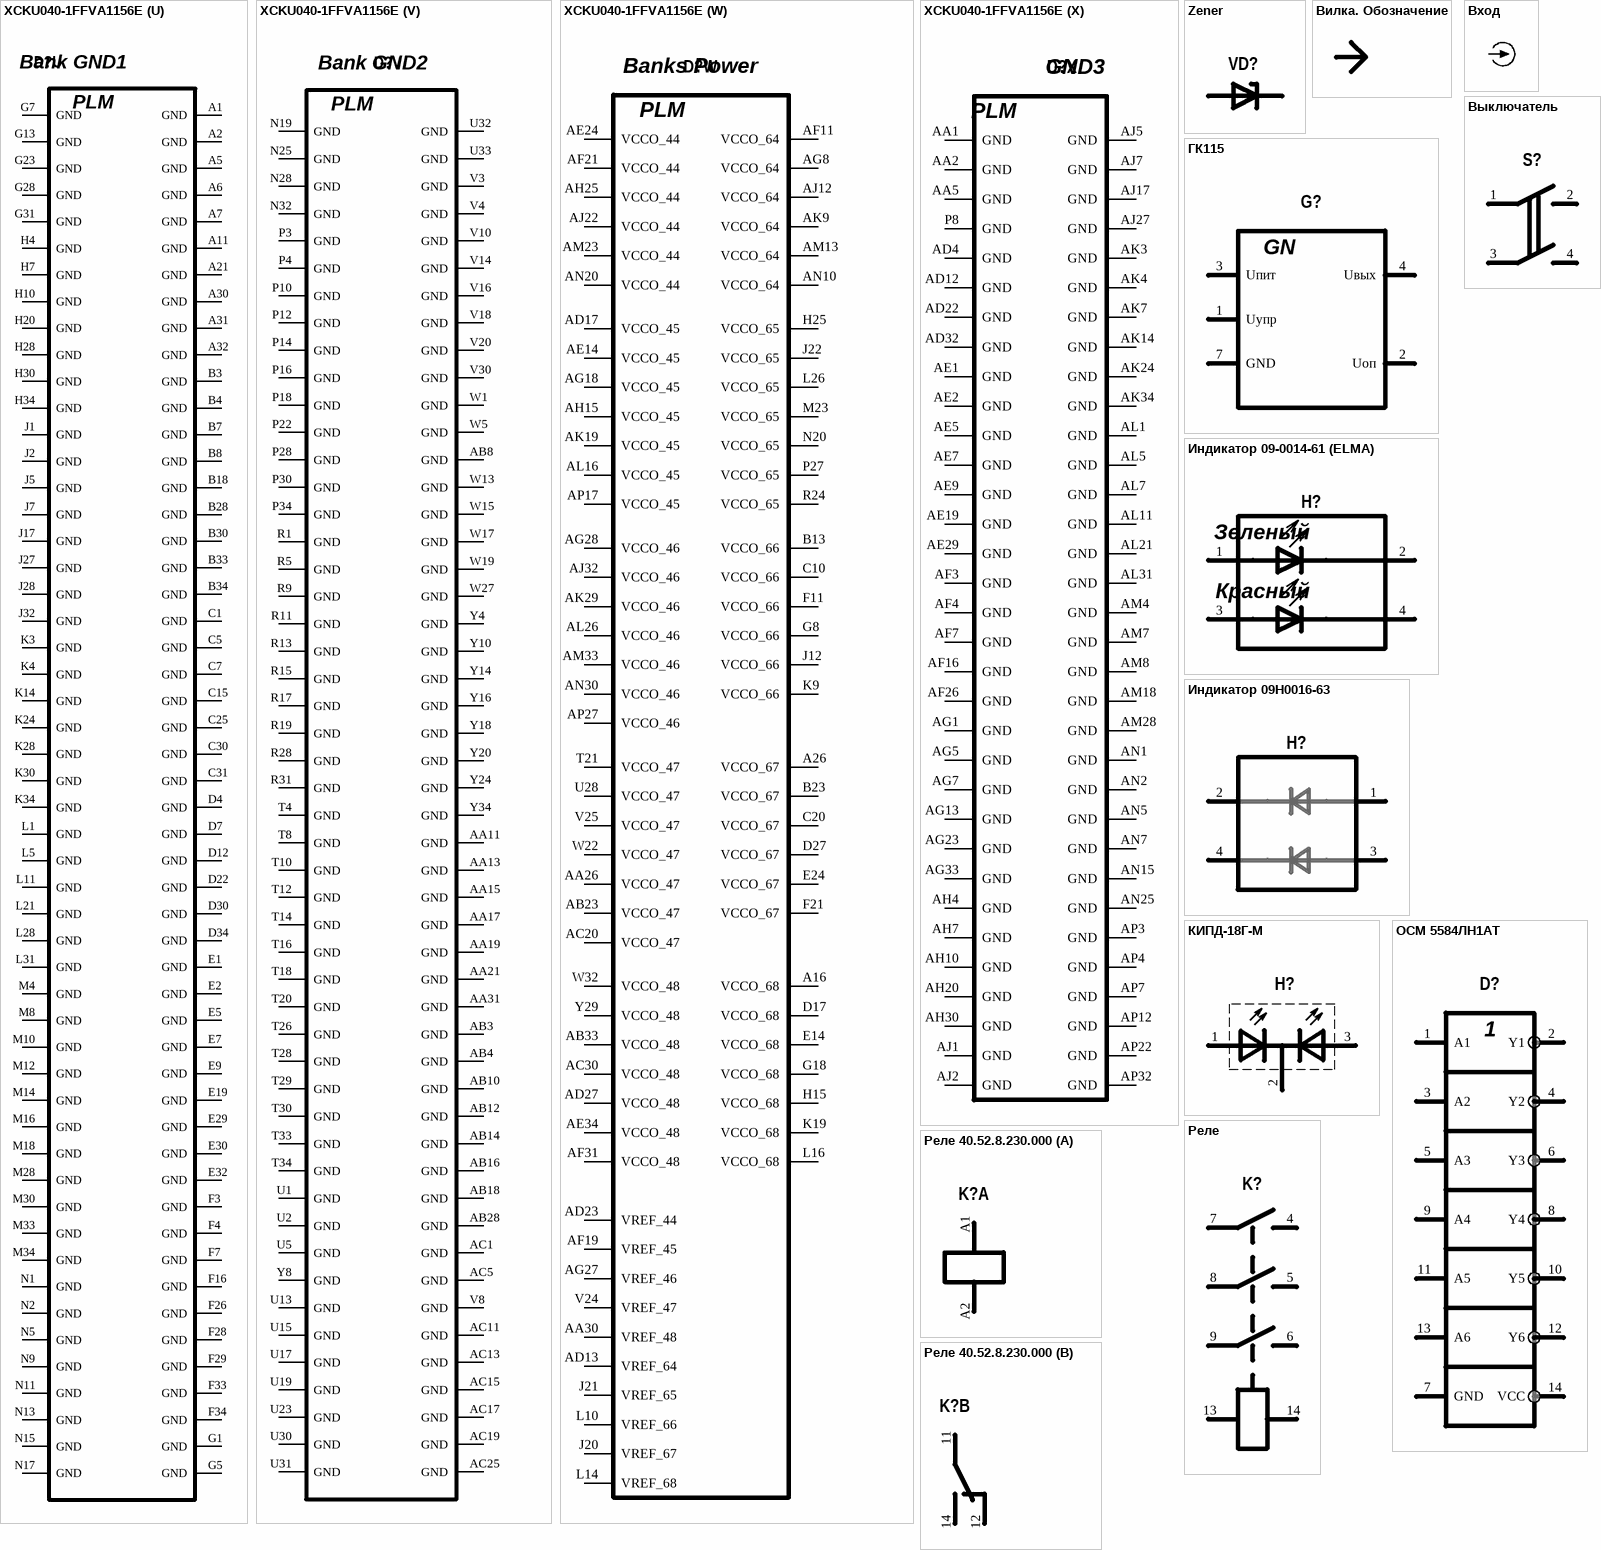
[diagram p26: symbols XCKU040-1FFVA1156E to Реле 40.52.8.230.000]

## XCKU040-1FFVA1156E
designator D?  (value not drawn)
Kintex UltraScale; Value: XCKU040-1FFVA1156E
footprint FFVA1156 (Footprint not found)
part A pins: AA7 D02_0, AA9 CCLK_0, AB7 D01_DIN_0, AB9 VCCO_0, AC7 D00_MOSI_0, AC9 TCK_0, AD7 VBATT, K7 M0_0, L7 M1_0, M7 M2_0, N7 DONE_0, P7 POR_OVERRIDE, R7 PUDC_B_0, T7 PROGRAM_B_0, U7 RDWR_FCS_B_0, U9 TDO_0, U11 GNDADC, U12 VCCADC, V7 INIT_B_0, V9 TDI_0, V11 VREFN, V12 VP, W7 CFGBVS_0, W9 TMS_0, W11 VN, W12 VREFP, Y7 D03_0, Y9 VCCO_0, Y11 DXN, Y12 DXP
part B pins: AD20 IO_L3P_T0L_N4_AD15P_44, AD21 IO_L1P_T0L_N0_DBC_44, AD24 IO_T0U_N12_VRP_44, AE20 IO_L3N_T0L_N5_AD15N_44, AE21 IO_L1N_T0L_N1_DBC_44, AE22 IO_L5P_T0U_N8_AD14P_44, AE23 IO_L5N_T0U_N9_AD14N_44, AE25 IO_L7P_T1L_N0_QBC_AD13P_44, AE26 IO_L7N_T1L_N1_QBC_AD13N_44, AF20 IO_L2P_T0L_N2_44, AF22 IO_L6P_T0U_N10_AD6P_44, AF23 IO_L8P_T1L_N2_AD5P_44, AF24 IO_L8N_T1L_N3_AD5N_44, AF25 IO_T1U_N12_44, AG20 IO_L2N_T0L_N3_44, AG21 IO_L4P_T0U_N6_DBC_AD7P_44, AG22 IO_L6N_T0U_N11_AD6N_44, AG24 IO_L9P_T1L_N4_AD12P_44, AG25 IO_L9N_T1L_N5_AD12N_44, AH21 IO_L4N_T0U_N7_DBC_AD7N_44, AH22 IO_L12P_T1U_N10_GC_44, AH23 IO_L12N_T1U_N11_GC_44, AH24 IO_L10P_T1U_N6_QBC_AD4P_44, AJ20 IO_L16P_T2U_N6_QBC_AD3P_44, AJ21 IO_L13P_T2L_N0_GC_QBC_44, AJ23 IO_L11P_T1U_N8_GC_44, AJ24 IO_L11N_T1U_N9_GC_44, AJ25 IO_L10N_T1U_N7_QBC_AD4N_44, AK20 IO_L16N_T2U_N7_QBC_AD3N_44, AK21 IO_L13N_T2L_N1_GC_QBC_44, AK22 IO_L14P_T2L_N2_GC_44, AK23 IO_L14N_T2L_N3_GC_44, AK25 IO_T2U_N12_44, AL20 IO_L15P_T2L_N4_AD11P_44, AL22 IO_L17P_T2U_N8_AD10P_44, AL23 IO_L17N_T2U_N9_AD10N_44, AL24 IO_L18P_T2U_N10_AD2P_44, AL25 IO_L18N_T2U_N11_AD2N_44, AM20 IO_L15N_T2L_N5_AD11N_44, AM21 IO_L19P_T3L_N0_DBC_AD9P_44, AM22 IO_L20P_T3L_N2_AD1P_44, AM24 IO_L21P_T3L_N4_AD8P_44, AM25 IO_T3U_N12_44, AN21 IO_L19N_T3L_N1_DBC_AD9N_44, AN22 IO_L20N_T3L_N3_AD1N_44, AN23 IO_L24P_T3U_N10_44, AN24 IO_L21N_T3L_N5_AD8N_44, AP20 IO_L22P_T3U_N6_DBC_AD0P_44, AP21 IO_L22N_T3U_N7_DBC_AD0N_44, AP23 IO_L24N_T3U_N11_44, AP24 IO_L23P_T3U_N8_44, AP25 IO_L23N_T3U_N9_44
part C pins: AD14 IO_T3U_N12_45 (power), AD15 IO_L24N_T3U_N11_45 (power), AD16 IO_L24P_T3U_N10_45 (power), AD18 IO_L19N_T3L_N1_DBC_AD9N_45 (power), AD19 IO_L19P_T3L_N0_DBC_AD9P_45 (power), AE15 IO_L22N_T3U_N7_DBC_AD0N_45 (power), AE16 IO_L22P_T3U_N6_DBC_AD0P_45 (power), AE17 IO_L23P_T3U_N8_45 (power), AE18 IO_L21P_T3L_N4_AD8P_45 (power), AF14 IO_L20N_T3L_N3_AD1N_45 (power), AF15 IO_L20P_T3L_N2_AD1P_45 (power), AF17 IO_L23N_T3U_N9_45 (power), AF18 IO_L21N_T3L_N5_AD8N_45 (power), AG14 IO_L18N_T2U_N11_AD2N_45 (power), AG15 IO_L18P_T2U_N10_AD2P_45 (power), AG16 IO_L15N_T2L_N5_AD11N_45 (power), AG17 IO_L15P_T2L_N4_AD11P_45 (power), AG19 IO_L17P_T2U_N8_AD10P_45 (power), AH14 IO_T2U_N12_45 (power), AH16 IO_L14P_T2L_N2_GC_45 (power), AH17 IO_L13N_T2L_N1_GC_QBC_45 (power), AH18 IO_L13P_T2L_N0_GC_QBC_45 (power), AH19 IO_L17N_T2U_N9_AD10N_45 (power), AJ14 IO_L16N_T2U_N7_QBC_AD3N_45 (power), AJ15 IO_L16P_T2U_N6_QBC_AD3P_45 (power), AJ16 IO_L14N_T2L_N3_GC_45 (power), AJ18 IO_L11P_T1U_N8_GC_45 (power), AJ19 IO_T1U_N12_45 (power), AK15 IO_L9P_T1L_N4_AD12P_45 (power), AK16 IO_L12N_T1U_N11_GC_45 (power), AK17 IO_L12P_T1U_N10_GC_45 (power), AK18 IO_L11N_T1U_N9_GC_45 (power), AL14 IO_L7P_T1L_N0_QBC_AD13P_45 (power), AL15 IO_L9N_T1L_N5_AD12N_45 (power), AL17 IO_L10N_T1U_N7_QBC_AD4N_45 (power), AL18 IO_L10P_T1U_N6_QBC_AD4P_45 (power), AL19 IO_L8P_T1L_N2_AD5P_45 (power), AM14 IO_L7N_T1L_N1_QBC_AD13N_45 (power), AM15 IO_L5N_T0U_N9_AD14N_45 (power), AM16 IO_L5P_T0U_N8_AD14P_45 (power), AM17 IO_L3P_T0L_N4_AD15P_45 (power), AM19 IO_L8N_T1L_N3_AD5N_45 (power), AN14 IO_L1P_T0L_N0_DBC_45 (power), AN16 IO_L3N_T0L_N5_AD15N_45 (power), AN17 IO_L4N_T0U_N7_DBC_AD7N_45 (power), AN18 IO_L4P_T0U_N6_DBC_AD7P_45 (power), AN19 IO_L2P_T0L_N2_45 (power), AP14 IO_L1N_T0L_N1_DBC_45 (power), AP15 IO_L6N_T0U_N11_AD6N_45 (power), AP16 IO_L6P_T0U_N10_AD6P_45 (power), AP18 IO_L2N_T0L_N3_45 (power), AP19 IO_T0U_N12_VRP_45 (power)
part D pins: AG26 IO_T0U_N12_VRP_46, AH26 IO_L1P_T0L_N0_DBC_46, AH27 IO_L5P_T0U_N8_AD14P_46, AH28 IO_L5N_T0U_N9_AD14N_46, AH29 IO_T2U_N12_46, AH31 IO_L17P_T2U_N8_AD10P_46, AH32 IO_L17N_T2U_N9_AD10N_46, AH33 IO_L16P_T2U_N6_QBC_AD3P_46, AH34 IO_L18P_T2U_N10_AD2P_46, AJ26 IO_L1N_T0L_N1_DBC_46, AJ28 IO_L6P_T0U_N10_AD6P_46, AJ29 IO_L13P_T2L_N0_GC_QBC_46, AJ30 IO_L15P_T2L_N4_AD11P_46, AJ31 IO_L15N_T2L_N5_AD11N_46, AJ33 IO_L16N_T2U_N7_QBC_AD3N_46, AJ34 IO_L18N_T2U_N11_AD2N_46, AK26 IO_L3P_T0L_N4_AD15P_46, AK27 IO_L3N_T0L_N5_AD15N_46, AK28 IO_L6N_T0U_N11_AD6N_46, AK30 IO_L13N_T2L_N1_GC_QBC_46, AK31 IO_L14P_T2L_N2_GC_46, AK32 IO_L14N_T2L_N3_GC_46, AK33 IO_T3U_N12_46, AL27 IO_L4P_T0U_N6_DBC_AD7P_46, AL28 IO_L4N_T0U_N7_DBC_AD7N_46, AL29 IO_L11P_T1U_N8_GC_46, AL30 IO_L12P_T1U_N10_GC_46, AL32 IO_L19P_T3L_N0_DBC_AD9P_46, AL33 IO_L19N_T3L_N1_DBC_AD9N_46, AL34 IO_L24P_T3U_N10_46, AM26 IO_L2P_T0L_N2_46, AM27 IO_L2N_T0L_N3_46, AM29 IO_L11N_T1U_N9_GC_46, AM30 IO_L12N_T1U_N11_GC_46, AM31 IO_T1U_N12_46, AM32 IO_L23P_T3U_N8_46, AM34 IO_L24N_T3U_N11_46, AN26 IO_L7P_T1L_N0_QBC_AD13P_46, AN27 IO_L9P_T1L_N4_AD12P_46, AN28 IO_L9N_T1L_N5_AD12N_46, AN29 IO_L10P_T1U_N6_QBC_AD4P_46, AN31 IO_L21P_T3L_N4_AD8P_46, AN32 IO_L23N_T3U_N9_46, AN33 IO_L20P_T3L_N2_AD1P_46, AN34 IO_L22P_T3U_N6_DBC_AD0P_46, AP26 IO_L7N_T1L_N1_QBC_AD13N_46, AP28 IO_L8P_T1L_N2_AD5P_46, AP29 IO_L8N_T1L_N3_AD5N_46, AP30 IO_L10N_T1U_N7_QBC_AD4N_46, AP31 IO_L21N_T3L_N5_AD8N_46, AP33 IO_L20N_T3L_N3_AD1N_46, AP34 IO_L22N_T3U_N7_DBC_AD0N_46
part E pins: AA20 IO_L9P_T1L_N4_AD12P_47, AA22 IO_L7P_T1L_N0_QBC_AD13P_47, AA23 IO_L11N_T1U_N9_GC_47, AA24 IO_L12P_T1U_N10_GC_47, AA25 IO_L12N_T1U_N11_GC_47, AA27 IO_L5P_T0U_N8_AD14P_47, AA28 IO_T0U_N12_VRP_47, AB20 IO_L9N_T1L_N5_AD12N_47, AB21 IO_L10P_T1U_N6_QBC_AD4P_47, AB22 IO_L7N_T1L_N1_QBC_AD13N_47, AB24 IO_L3P_T0L_N4_AD15P_47, AB25 IO_L6P_T0U_N10_AD6P_47, AB26 IO_L6N_T0U_N11_AD6N_47, AB27 IO_L5N_T0U_N9_AD14N_47, AC21 IO_L10N_T1U_N7_QBC_AD4N_47, AC22 IO_L8P_T1L_N2_AD5P_47, AC23 IO_L8N_T1L_N3_AD5N_47, AC24 IO_L3N_T0L_N5_AD15N_47, AC26 IO_L4P_T0U_N6_DBC_AD7P_47, AC27 IO_L4N_T0U_N7_DBC_AD7N_47, AD25 IO_L2P_T0L_N2_47, AD26 IO_L2N_T0L_N3_47, T22 IO_L17P_T2U_N8_AD10P_47, T23 IO_L17N_T2U_N9_AD10N_47, U21 IO_L15P_T2L_N4_AD11P_47, U22 IO_L15N_T2L_N5_AD11N_47, U24 IO_L20P_T3L_N2_AD1P_47, U25 IO_L20N_T3L_N3_AD1N_47, U26 IO_L22P_T3U_N6_DBC_AD0P_47, U27 IO_L22N_T3U_N7_DBC_AD0N_47, U29 IO_T3U_N12_47, V21 IO_L18P_T2U_N10_AD2P_47, V22 IO_L16P_T2U_N6_QBC_AD3P_47, V23 IO_L16N_T2U_N7_QBC_AD3N_47, V26 IO_L24P_T3U_N10_47, V27 IO_L19P_T3L_N0_DBC_AD9P_47, V28 IO_L19N_T3L_N1_DBC_AD9N_47, V29 IO_L23P_T3U_N8_47, W21 IO_L18N_T2U_N11_AD2N_47, W23 IO_L13P_T2L_N0_GC_QBC_47, W24 IO_L13N_T2L_N1_GC_QBC_47, W25 IO_L14P_T2L_N2_GC_47, W26 IO_L24N_T3U_N11_47, W28 IO_L21P_T3L_N4_AD8P_47, W29 IO_L23N_T3U_N9_47, Y21 IO_T2U_N12_47, Y22 IO_T1U_N12_47, Y23 IO_L11P_T1U_N8_GC_47, Y25 IO_L14N_T2L_N3_GC_47, Y26 IO_L1P_T0L_N0_DBC_47, Y27 IO_L1N_T0L_N1_DBC_47, Y28 IO_L21N_T3L_N5_AD8N_47
part F pins: AA29 IO_L16P_T2U_N6_QBC_AD3P_48, AA32 IO_L13P_T2L_N0_GC_QBC_48, AA33 IO_T2U_N12_48, AA34 IO_L17P_T2U_N8_AD10P_48, AB29 IO_L16N_T2U_N7_QBC_AD3N_48, AB30 IO_L14P_T2L_N2_GC_48, AB31 IO_L14N_T2L_N3_GC_48, AB32 IO_L13N_T2L_N1_GC_QBC_48, AB34 IO_L17N_T2U_N9_AD10N_48, AC28 IO_L3P_T0L_N4_AD15P_48, AC29 IO_T0U_N12_VRP_48, AC31 IO_L12P_T1U_N10_GC_48, AC32 IO_L12N_T1U_N11_GC_48, AC33 IO_L18P_T2U_N10_AD2P_48, AC34 IO_L15P_T2L_N4_AD11P_48, AD28 IO_L3N_T0L_N5_AD15N_48, AD29 IO_L5P_T0U_N8_AD14P_48, AD30 IO_L11P_T1U_N8_GC_48, AD31 IO_L11N_T1U_N9_GC_48, AD33 IO_L18N_T2U_N11_AD2N_48, AD34 IO_L15N_T2L_N5_AD11N_48, AE27 IO_L1P_T0L_N0_DBC_48, AE28 IO_L2P_T0L_N2_48, AE30 IO_L5N_T0U_N9_AD14N_48, AE31 IO_T1U_N12_48, AE32 IO_L9P_T1L_N4_AD12P_48, AE33 IO_L10P_T1U_N6_QBC_AD4P_48, AF27 IO_L1N_T0L_N1_DBC_48, AF28 IO_L2N_T0L_N3_48, AF29 IO_L4P_T0U_N6_DBC_AD7P_48, AF30 IO_L6P_T0U_N10_AD6P_48, AF32 IO_L9N_T1L_N5_AD12N_48, AF33 IO_L8P_T1L_N2_AD5P_48, AF34 IO_L10N_T1U_N7_QBC_AD4N_48, AG29 IO_L4N_T0U_N7_DBC_AD7N_48, AG30 IO_L6N_T0U_N11_AD6N_48, AG31 IO_L7P_T1L_N0_QBC_AD13P_48, AG32 IO_L7N_T1L_N1_QBC_AD13N_48, AG34 IO_L8N_T1L_N3_AD5N_48, U34 IO_L23P_T3U_N8_48, V31 IO_L24P_T3U_N10_48, V32 IO_T3U_N12_48, V33 IO_L21P_T3L_N4_AD8P_48, V34 IO_L23N_T3U_N9_48, W30 IO_L20P_T3L_N2_AD1P_48, W31 IO_L24N_T3U_N11_48, W33 IO_L19P_T3L_N0_DBC_AD9P_48, W34 IO_L21N_T3L_N5_AD8N_48, Y30 IO_L20N_T3L_N3_AD1N_48, Y31 IO_L22P_T3U_N6_DBC_AD0P_48, Y32 IO_L22N_T3U_N7_DBC_AD0N_48, Y33 IO_L19N_T3L_N1_DBC_AD9N_48
part G pins: AD8 IO_L17N_T2U_N9_AD10N_64, AD9 IO_L17P_T2U_N8_AD10P_64, AD10 IO_L16P_T2U_N6_QBC_AD3P_64, AD11 IO_L10P_T1U_N6_QBC_AD4P_64, AE8 IO_L15P_T2L_N4_AD11P_64, AE10 IO_L16N_T2U_N7_QBC_AD3N_64, AE11 IO_L10N_T1U_N7_QBC_AD4N_64, AE12 IO_L9P_T1L_N4_AD12P_64, AE13 IO_L7P_T1L_N0_QBC_AD13P_64, AF8 IO_L15N_T2L_N5_AD11N_64, AF9 IO_L14P_T2L_N2_GC_64, AF10 IO_L13P_T2L_N0_GC_QBC_64, AF12 IO_L9N_T1L_N5_AD12N_64, AF13 IO_L7N_T1L_N1_QBC_AD13N_64, AG9 IO_L14N_T2L_N3_GC_64, AG10 IO_L13N_T2L_N1_GC_QBC_64, AG11 IO_L12P_T1U_N10_GC_64, AG12 IO_L11P_T1U_N8_GC_64, AH8 IO_L18N_T2U_N11_AD2N_64, AH9 IO_L18P_T2U_N10_AD2P_64, AH11 IO_L12N_T1U_N11_GC_64, AH12 IO_L11N_T1U_N9_GC_64, AH13 IO_L8P_T1L_N2_AD5P_64, AJ8 IO_L23N_T3U_N9_64, AJ9 IO_L23P_T3U_N8_64, AJ10 IO_T2U_N12_64, AJ11 IO_T1U_N12_64, AJ13 IO_L8N_T1L_N3_AD5N_64, AK8 IO_L24P_T3U_N10_64, AK10 IO_L21P_T3L_N4_AD8P_64, AK11 IO_T0U_N12_64, AK12 IO_L5P_T0U_N8_AD14P_64, AK13 IO_L6P_T0U_N10_AD6P_64, AL8 IO_L24N_T3U_N11_64, AL9 IO_L21N_T3L_N5_AD8N_64, AL10 IO_L19P_T3L_N0_DBC_AD9P_64, AL12 IO_L5N_T0U_N9_AD14N_64, AL13 IO_L6N_T0U_N11_AD6N_64, AM9 IO_T3U_N12_64, AM10 IO_L19N_T3L_N1_DBC_AD9N_64, AM11 IO_L3P_T0L_N4_AD15P_64, AM12 IO_L4P_T0U_N6_DBC_AD7P_64, AN8 IO_L22P_T3U_N6_DBC_AD0P_64, AN9 IO_L20P_T3L_N2_AD1P_64, AN11 IO_L3N_T0L_N5_AD15N_64, AN12 IO_L4N_T0U_N7_DBC_AD7N_64, AN13 IO_L2P_T0L_N2_64, AP8 IO_L22N_T3U_N7_DBC_AD0N_64, AP9 IO_L20N_T3L_N3_AD1N_64, AP10 IO_L1N_T0L_N1_DBC_64, AP11 IO_L1P_T0L_N0_DBC_64, AP13 IO_L2N_T0L_N3_64
part H pins: G25 IO_L2P_T0L_N2_FOE_B_65, G26 IO_L2N_T0L_N3_FWE_FCS2_B_65, G27 IO_L1N_T0L_N1_DBC_RS1_65, H23 IO_T0U_N12_A28_65, H24 IO_L6N_T0U_N11_AD6N_A21_65, H26 IO_L5N_T0U_N9_AD14N_A23_65, H27 IO_L1P_T0L_N0_DBC_RS0_65, J23 IO_L6P_T0U_N10_AD6P_A20_65, J24 IO_L4P_T0U_N6_DBC_AD7P_A24_65, J25 IO_L4N_T0U_N7_DBC_AD7N_A25_65, J26 IO_L5P_T0U_N8_AD14P_A22_65, K20 IO_L24P_T3U_N10_EMCCLK_65, K21 IO_L24N_T3U_N11_DOUT_CSO_B_65, K22 IO_T3U_N12_PERSTN0_65, K23 IO_L10N_T1U_N7_QBC_AD4N_A13_D29_65, K25 IO_L9N_T1L_N5_AD12N_A15_D31_65, K26 IO_L3P_T0L_N4_AD15P_A26_65, K27 IO_L3N_T0L_N5_AD15N_A27_65, L20 IO_L22N_T3U_N7_DBC_AD0N_D05_65, L22 IO_L10P_T1U_N6_QBC_AD4P_A12_D28_65, L23 IO_L8P_T1L_N2_AD5P_A16_65, L24 IO_L8N_T1L_N3_AD5N_A17_65, L25 IO_L9P_T1L_N4_AD12P_A14_D30_65, L27 IO_L7N_T1L_N1_QBC_AD13N_A19_65, M20 IO_L22P_T3U_N6_DBC_AD0P_D04_65, M21 IO_L23N_T3U_N9_I2C_SDA_65, M22 IO_L19N_T3L_N1_DBC_AD9N_D11_65, M24 IO_L12N_T1U_N11_GC_A09_D25_65, M25 IO_L11P_T1U_N8_GC_A10_D26_65, M26 IO_L11N_T1U_N9_GC_A11_D27_65, M27 IO_L7P_T1L_N0_QBC_AD13P_A18_65, N21 IO_L23P_T3U_N8_I2C_SCLK_65, N22 IO_L19P_T3L_N0_DBC_AD9P_D10_65, N23 IO_T1U_N12_PERSTN1_65, N24 IO_L12P_T1U_N10_GC_A08_D24_65, N26 IO_L13N_T2L_N1_GC_QBC_A07_D23_65, N27 IO_T2U_N12_CSI_ADV_B_65, P20 IO_L20P_T3L_N2_AD1P_D08_65, P21 IO_L20N_T3L_N3_AD1N_D09_65, P23 IO_L18N_T2U_N11_AD2N_D13_65, P24 IO_L14P_T2L_N2_GC_A04_D20_65, P25 IO_L14N_T2L_N3_GC_A05_D21_65, P26 IO_L13P_T2L_N0_GC_QBC_A06_D22_65, R21 IO_L21P_T3L_N4_AD8P_D06_65, R22 IO_L21N_T3L_N5_AD8N_D07_65, R23 IO_L18P_T2U_N10_AD2P_D12_65, R25 IO_L17P_T2U_N8_AD10P_D14_65, R26 IO_L17N_T2U_N9_AD10N_D15_65, R27 IO_L15N_T2L_N5_AD11N_A03_D19_65, T24 IO_L16P_T2U_N6_QBC_AD3P_A00_D16_65, T25 IO_L16N_T2U_N7_QBC_AD3N_A01_D17_65, T27 IO_L15P_T2L_N4_AD11P_A02_D18_65
part I pins: A8 IO_T0U_N12_VRP_66, A9 IO_L2N_T0L_N3_66, A10 IO_L4N_T0U_N7_DBC_AD7N_66, A12 IO_L23N_T3U_N9_66, A13 IO_L23P_T3U_N8_66, B9 IO_L2P_T0L_N2_66, B10 IO_L4P_T0U_N6_DBC_AD7P_66, B11 IO_L21N_T3L_N5_AD8N_66, B12 IO_L20N_T3L_N3_AD1N_66, C8 IO_L3N_T0L_N5_AD15N_66, C9 IO_L5N_T0U_N9_AD14N_66, C11 IO_L21P_T3L_N4_AD8P_66, C12 IO_L20P_T3L_N2_AD1P_66, C13 IO_L24N_T3U_N11_66, D8 IO_L3P_T0L_N4_AD15P_66, D9 IO_L5P_T0U_N8_AD14P_66, D10 IO_L6N_T0U_N11_AD6N_66, D11 IO_L19N_T3L_N1_DBC_AD9N_66, D13 IO_L24P_T3U_N10_66, E8 IO_L1N_T0L_N1_DBC_66, E10 IO_L6P_T0U_N10_AD6P_66, E11 IO_L19P_T3L_N0_DBC_AD9P_66, E12 IO_T3U_N12_66, E13 IO_L22N_T3U_N7_DBC_AD0N_66, F8 IO_L1P_T0L_N0_DBC_66, F9 IO_L11N_T1U_N9_GC_66, F10 IO_L12N_T1U_N11_GC_66, F12 IO_T2U_N12_66, F13 IO_L22P_T3U_N6_DBC_AD0P_66, G9 IO_L11P_T1U_N8_GC_66, G10 IO_L12P_T1U_N10_GC_66, G11 IO_L13N_T2L_N1_GC_QBC_66, G12 IO_L14N_T2L_N3_GC_66, H8 IO_L9N_T1L_N5_AD12N_66, H9 IO_L8N_T1L_N3_AD5N_66, H11 IO_L13P_T2L_N0_GC_QBC_66, H12 IO_L14P_T2L_N2_GC_66, H13 IO_L18N_T2U_N11_AD2N_66, J8 IO_L9P_T1L_N4_AD12P_66, J9 IO_L8P_T1L_N2_AD5P_66, J10 IO_L10N_T1U_N7_QBC_AD4N_66, J11 IO_L15N_T2L_N5_AD11N_66, J13 IO_L18P_T2U_N10_AD2P_66, K8 IO_L7N_T1L_N1_QBC_AD13N_66, K10 IO_L10P_T1U_N6_QBC_AD4P_66, K11 IO_L15P_T2L_N4_AD11P_66, K12 IO_L17N_T2U_N9_AD10N_66, K13 IO_L16N_T2U_N7_QBC_AD3N_66, L8 IO_L7P_T1L_N0_QBC_AD13P_66, L9 IO_T1U_N12_66, L12 IO_L17P_T2U_N8_AD10P_66, L13 IO_L16P_T2U_N6_QBC_AD3P_66
part J pins: A20 IO_L17N_T2U_N9_AD10N_67, A22 IO_T2U_N12_67, A23 IO_T1U_N12_67, A24 IO_L10N_T1U_N7_QBC_AD4N_67, A25 IO_L8N_T1L_N3_AD5N_67, A27 IO_L6P_T0U_N10_AD6P_67, A28 IO_L6N_T0U_N11_AD6N_67, A29 IO_L4N_T0U_N7_DBC_AD7N_67, B20 IO_L17P_T2U_N8_AD10P_67, B21 IO_L15P_T2L_N4_AD11P_67, B22 IO_L15N_T2L_N5_AD11N_67, B24 IO_L10P_T1U_N6_QBC_AD4P_67, B25 IO_L8P_T1L_N2_AD5P_67, B26 IO_L9N_T1L_N5_AD12N_67, B27 IO_L2N_T0L_N3_67, B29 IO_L4P_T0U_N6_DBC_AD7P_67, C21 IO_L16P_T2U_N6_QBC_AD3P_67, C22 IO_L16N_T2U_N7_QBC_AD3N_67, C23 IO_L13N_T2L_N1_GC_QBC_67, C24 IO_L12N_T1U_N11_GC_67, C26 IO_L9P_T1L_N4_AD12P_67, C27 IO_L2P_T0L_N2_67, C28 IO_L5N_T0U_N9_AD14N_67, C29 IO_T0U_N12_VRP_67, D20 IO_L18P_T2U_N10_AD2P_67, D21 IO_L18N_T2U_N11_AD2N_67, D23 IO_L13P_T2L_N0_GC_QBC_67, D24 IO_L12P_T1U_N10_GC_67, D25 IO_L11N_T1U_N9_GC_67, D26 IO_L7N_T1L_N1_QBC_AD13N_67, D28 IO_L5P_T0U_N8_AD14P_67, D29 IO_L3N_T0L_N5_AD15N_67, E20 IO_L20P_T3L_N2_AD1P_67, E21 IO_L20N_T3L_N3_AD1N_67, E22 IO_L14P_T2L_N2_GC_67, E23 IO_L14N_T2L_N3_GC_67, E25 IO_L11P_T1U_N8_GC_67, E26 IO_L7P_T1L_N0_QBC_AD13P_67, E27 IO_L1N_T0L_N1_DBC_67, E28 IO_L3P_T0L_N4_AD15P_67, F20 IO_L22N_T3U_N7_DBC_AD0N_67, F22 IO_L23N_T3U_N9_67, F23 IO_L21P_T3L_N4_AD8P_67, F24 IO_L21N_T3L_N5_AD8N_67, F25 IO_L19N_T3L_N1_DBC_AD9N_67, F27 IO_L1P_T0L_N0_DBC_67, G20 IO_L22P_T3U_N6_DBC_AD0P_67, G21 IO_L24N_T3U_N11_67, G22 IO_L23P_T3U_N8_67, G24 IO_L19P_T3L_N0_DBC_AD9P_67, H21 IO_L24P_T3U_N10_67, H22 IO_T3U_N12_67
part K pins: A14 IO_L1N_T0L_N1_DBC_68, A15 IO_L3N_T0L_N5_AD15N_68, A17 IO_T0U_N12_VRP_68, A18 IO_L2N_T0L_N3_68, A19 IO_L2P_T0L_N2_68, B14 IO_L1P_T0L_N0_DBC_68, B15 IO_L3P_T0L_N4_AD15P_68, B16 IO_L5N_T0U_N9_AD14N_68, B17 IO_L5P_T0U_N8_AD14P_68, B19 IO_L4N_T0U_N7_DBC_AD7N_68, C14 IO_L7N_T1L_N1_QBC_AD13N_68, C16 IO_T1U_N12_68, C17 IO_L6N_T0U_N11_AD6N_68, C18 IO_L6P_T0U_N10_AD6P_68, C19 IO_L4P_T0U_N6_DBC_AD7P_68, D14 IO_L7P_T1L_N0_QBC_AD13P_68, D15 IO_L8N_T1L_N3_AD5N_68, D16 IO_L11N_T1U_N9_GC_68, D18 IO_L10N_T1U_N7_QBC_AD4N_68, D19 IO_L10P_T1U_N6_QBC_AD4P_68, E15 IO_L8P_T1L_N2_AD5P_68, E16 IO_L11P_T1U_N8_GC_68, E17 IO_L12N_T1U_N11_GC_68, E18 IO_L12P_T1U_N10_GC_68, F14 IO_L9N_T1L_N5_AD12N_68, F15 IO_L9P_T1L_N4_AD12P_68, F17 IO_L14N_T2L_N3_GC_68, F18 IO_L14P_T2L_N2_GC_68, F19 IO_L16N_T2U_N7_QBC_AD3N_68, G14 IO_L15N_T2L_N5_AD11N_68, G15 IO_L15P_T2L_N4_AD11P_68, G16 IO_L13N_T2L_N1_GC_QBC_68, G17 IO_L13P_T2L_N0_GC_QBC_68, G19 IO_L16P_T2U_N6_QBC_AD3P_68, H14 IO_T2U_N12_68, H16 IO_L17N_T2U_N9_AD10N_68, H17 IO_L17P_T2U_N8_AD10P_68, H18 IO_L18N_T2U_N11_AD2N_68, H19 IO_L18P_T2U_N10_AD2P_68, J14 IO_L19N_T3L_N1_DBC_AD9N_68, J15 IO_L19P_T3L_N0_DBC_AD9P_68, J16 IO_L23N_T3U_N9_68, J18 IO_L22N_T3U_N7_DBC_AD0N_68, J19 IO_L22P_T3U_N6_DBC_AD0P_68, K15 IO_L21N_T3L_N5_AD8N_68, K16 IO_L23P_T3U_N8_68, K17 IO_L20N_T3L_N3_AD1N_68, K18 IO_L20P_T3L_N2_AD1P_68, L15 IO_L21P_T3L_N4_AD8P_68, L17 IO_T3U_N12_68, L18 IO_L24N_T3U_N11_68, L19 IO_L24P_T3U_N10_68
part L pins: AD5 MGTREFCLK1N_224, AD6 MGTREFCLK1P_224, AF5 MGTREFCLK0N_224, AF6 MGTREFCLK0P_224, AJ3 MGTHRXN3_224, AJ4 MGTHRXP3_224, AK1 MGTHRXN2_224, AK2 MGTHRXP2_224, AK5 MGTHTXN3_224, AK6 MGTHTXP3_224, AL3 MGTHTXN2_224, AL4 MGTHTXP2_224, AM1 MGTHRXN1_224, AM2 MGTHRXP1_224, AM5 MGTHTXN1_224, AM6 MGTHTXP1_224, AN3 MGTHTXN0_224, AN4 MGTHTXP0_224, AP1 MGTHRXN0_224, AP2 MGTHRXP0_224
part M pins: AB1 MGTHRXN3_225, AB2 MGTHRXP3_225, AB5 MGTREFCLK0N_225, AB6 MGTREFCLK0P_225, AC3 MGTHTXN3_225, AC4 MGTHTXP3_225, AD1 MGTHRXN2_225, AD2 MGTHRXP2_225, AE3 MGTHTXN2_225, AE4 MGTHTXP2_225, AF1 MGTHRXN1_225, AF2 MGTHRXP1_225, AG3 MGTHTXN1_225, AG4 MGTHTXP1_225, AH1 MGTHRXN0_225, AH2 MGTHRXP0_225, AH5 MGTHTXN0_225, AH6 MGTHTXP0_225, Y5 MGTREFCLK1N_225, Y6 MGTREFCLK1P_225
part N pins: AA3 MGTHTXN0_226, AA4 MGTHTXP0_226, P1 MGTHRXN3_226, P2 MGTHRXP3_226, R3 MGTHTXN3_226, R4 MGTHTXP3_226, T1 MGTHRXN2_226, T2 MGTHRXP2_226, T5 MGTREFCLK1N_226, T6 MGTREFCLK1P_226, U3 MGTHTXN2_226, U4 MGTHTXP2_226, V1 MGTHRXN1_226, V2 MGTHRXP1_226, V5 MGTREFCLK0N_226, V6 MGTREFCLK0P_226, W3 MGTHTXN1_226, W4 MGTHTXP1_226, Y1 MGTHRXN0_226, Y2 MGTHRXP0_226
part O pins: F1 MGTHRXN3_227, F2 MGTHRXP3_227, G3 MGTHTXN3_227, G4 MGTHTXP3_227, H1 MGTHRXN2_227, H2 MGTHRXP2_227, J3 MGTHTXN2_227, J4 MGTHTXP2_227, K1 MGTHRXN1_227, K2 MGTHRXP1_227, L3 MGTHTXN1_227, L4 MGTHTXP1_227, M1 MGTHRXN0_227, M2 MGTHRXP0_227, M5 MGTREFCLK1N_227, M6 MGTREFCLK1P_227, N3 MGTHTXN0_227, N4 MGTHTXP0_227, P5 MGTREFCLK0N_227, P6 MGTREFCLK0P_227
part P pins: A3 MGTHRXN3_228, A4 MGTHRXP3_228, B1 MGTHRXN2_228, B2 MGTHRXP2_228, B5 MGTHTXN3_228, B6 MGTHTXP3_228, C3 MGTHTXN2_228, C4 MGTHTXP2_228, D1 MGTHRXN1_228, D2 MGTHRXP1_228, D5 MGTHTXN1_228, D6 MGTHTXP1_228, E3 MGTHRXN0_228, E4 MGTHRXP0_228, F5 MGTHTXN0_228, F6 MGTHTXP0_228, H5 MGTREFCLK1N_228, H6 MGTREFCLK1P_228, K5 MGTREFCLK0N_228, K6 MGTREFCLK0P_228
part Q pins: AC6 MGTAVCC_R, AE6 MGTAVCC_R, AG6 MGTAVCC_R, AJ6 MGTAVCC_R, AL6 MGTAVCC_R, AN6 MGTAVCC_R, C6 MGTAVCC_R, E6 MGTAVCC_R, E31 MGTAVCC_L, F30 MGTAVCC_L, G6 MGTAVCC_R, H29 MGTAVCC_L, J6 MGTAVCC_R, J31 MGTAVCC_L, L6 MGTAVCC_R, N6 MGTAVCC_R, N31 MGTAVCC_L, P29 MGTAVCC_L, U6 MGTAVCC_R, W6 MGTAVCC_R
part R pins: AA6 MGTVCCAUX_R, AC2 MGTAVTT_R, AD3 MGTAVTT_R, AG2 MGTAVTT_R, AH3 MGTAVTT_R, AL2 MGTAVTT_R, AM3 MGTAVTT_R, AP5 MGTRREF_R, AP6 MGTAVTTRCAL_R, C2 MGTAVTT_R, C32 MGTAVTT_L, D3 MGTAVTT_R, D33 MGTAVTT_L, G2 MGTAVTT_R, G32 MGTAVTT_L, H3 MGTAVTT_R, H33 MGTAVTT_L, K29 MGTVCCAUX_L, K33 MGTAVTT_L, L2 MGTAVTT_R, L32 MGTAVTT_L, M3 MGTAVTT_R, M29 MGTVCCAUX_L, P33 MGTAVTT_L, R2 MGTAVTT_R, R6 MGTVCCAUX_R, R32 MGTAVTT_L, T3 MGTAVTT_R, W2 MGTAVTT_R, Y3 MGTAVTT_R
part S pins: AA8 VCCAUX, AA18 VCCBRAM, AB17 VCCBRAM, AB19 VCCAUX_IO, AC8 VCCAUX, AC18 VCCAUX_IO, M19 VCCAUX_IO, N18 VCCAUX_IO, P19 VCCAUX_IO, R20 VCCAUX_IO, T19 VCCAUX_IO, U8 VCCAUX, U20 VCCAUX_IO, V17 VCCBRAM, V19 VCCAUX_IO, W8 VCCAUX, W20 VCCAUX_IO, Y17 VCCBRAM, Y19 VCCAUX_IO
part T pins: AA10 VCCINT, AA12 VCCINT, AA14 VCCINT, AA16 VCCINT, AB11 VCCINT, AB13 VCCINT, AB15 VCCINT, AC10 VCCINT, AC12 VCCINT, AC14 VCCINT, AC16 VCCINT, M9 VCCINT, M11 VCCINT, M13 VCCINT, M15 VCCINT, M17 VCCINT_IO, N8 VCCINT, N10 VCCINT, N12 VCCINT, N14 VCCINT, N16 VCCINT, P9 VCCINT, P11 VCCINT, P13 VCCINT, P15 VCCINT, P17 VCCINT_IO, R8 VCCINT, R10 VCCINT, R12 VCCINT, R14 VCCINT, R16 VCCINT, R18 VCCINT_IO, T9 VCCINT, T11 VCCINT, T13 VCCINT, T15 VCCINT, T17 VCCINT, U10 VCCINT, U14 VCCINT, U16 VCCINT, U18 VCCINT_IO, V13 VCCINT, V15 VCCINT, W10 VCCINT, W14 VCCINT, W16 VCCINT, W18 VCCINT_IO, Y13 VCCINT, Y15 VCCINT
part U pins: A1 GND, A2 GND, A5 GND, A6 GND, A7 GND, A11 GND, A21 GND, A30 GND, A31 GND, A32 GND, B3 GND, B4 GND, B7 GND, B8 GND, B18 GND, B28 GND, B30 GND, B33 GND, B34 GND, C1 GND, C5 GND, C7 GND, C15 GND, C25 GND, C30 GND, C31 GND, D4 GND, D7 GND, D12 GND, D22 GND, D30 GND, D34 GND, E1 GND, E2 GND, E5 GND, E7 GND, E9 GND, E19 GND, E29 GND, E30 GND, E32 GND, F3 GND, F4 GND, F7 GND, F16 GND, F26 GND, F28 GND, F29 GND, F33 GND, F34 GND, G1 GND, G5 GND, G7 GND, G13 GND, G23 GND, G28 GND, G31 GND, H4 GND, H7 GND, H10 GND, H20 GND, H28 GND, H30 GND, H34 GND, J1 GND, J2 GND, J5 GND, J7 GND, J17 GND, J27 GND, J28 GND, J32 GND, K3 GND, K4 GND, K14 GND, K24 GND, K28 GND, K30 GND, K34 GND, L1 GND, L5 GND, L11 GND, L21 GND, L28 GND, L31 GND, M4 GND, M8 GND, M10 GND, M12 GND, M14 GND, M16 GND, M18 GND, M28 GND, M30 GND, M33 GND, M34 GND, N1 GND, N2 GND, N5 GND, N9 GND, N11 GND, N13 GND, N15 GND, N17 GND
part V pins: AA11 GND, AA13 GND, AA15 GND, AA17 GND, AA19 GND, AA21 GND, AA31 GND, AB3 GND, AB4 GND, AB8 GND, AB10 GND, AB12 GND, AB14 GND, AB16 GND, AB18 GND, AB28 GND, AC1 GND, AC5 GND, AC11 GND, AC13 GND, AC15 GND, AC17 GND, AC19 GND, AC25 GND, N19 GND, N25 GND, N28 GND, N32 GND, P3 GND, P4 GND, P10 GND, P12 GND, P14 GND, P16 GND, P18 GND, P22 GND, P28 GND, P30 GND, P34 GND, R1 GND, R5 GND, R9 GND, R11 GND, R13 GND, R15 GND, R17 GND, R19 GND, R28 GND, R31 GND, T4 GND, T8 GND, T10 GND, T12 GND, T14 GND, T16 GND, T18 GND, T20 GND, T26 GND, T28 GND, T29 GND, T30 GND, T33 GND, T34 GND, U1 GND, U2 GND, U5 GND, U13 GND, U15 GND, U17 GND, U19 GND, U23 GND, U30 GND, U31 GND, U32 GND, U33 GND, V3 GND, V4 GND, V8 GND, V10 GND, V14 GND, V16 GND, V18 GND, V20 GND, V30 GND, W1 GND, W5 GND, W13 GND, W15 GND, W17 GND, W19 GND, W27 GND, Y4 GND, Y8 GND, Y10 GND, Y14 GND, Y16 GND, Y18 GND, Y20 GND, Y24 GND, Y34 GND
part W pins: A16 VCCO_68, A26 VCCO_67, AA26 VCCO_47, AA30 VREF_48, AB23 VCCO_47, AB33 VCCO_48, AC20 VCCO_47, AC30 VCCO_48, AD13 VREF_64, AD17 VCCO_45 (power), AD23 VREF_44, AD27 VCCO_48, AE14 VCCO_45 (power), AE24 VCCO_44 (power), AE34 VCCO_48, AF11 VCCO_64, AF19 VREF_45 (power), AF21 VCCO_44 (power), AF31 VCCO_48, AG8 VCCO_64, AG18 VCCO_45 (power), AG27 VREF_46 (power), AG28 VCCO_46, AH15 VCCO_45 (power), AH25 VCCO_44 (power), AJ12 VCCO_64, AJ22 VCCO_44 (power), AJ32 VCCO_46, AK9 VCCO_64, AK19 VCCO_45 (power), AK29 VCCO_46, AL16 VCCO_45 (power), AL26 VCCO_46, AM13 VCCO_64, AM23 VCCO_44 (power), AM33 VCCO_46, AN10 VCCO_64, AN20 VCCO_44 (power), AN30 VCCO_46, AP17 VCCO_45 (power), AP27 VCCO_46, B13 VCCO_66, B23 VCCO_67, C10 VCCO_66, C20 VCCO_67, D17 VCCO_68, D27 VCCO_67, E14 VCCO_68, E24 VCCO_67, F11 VCCO_66, F21 VCCO_67, G8 VCCO_66, G18 VCCO_68, H15 VCCO_68, H25 VCCO_65, J12 VCCO_66, J20 VREF_67, J21 VREF_65, J22 VCCO_65, K9 VCCO_66, K19 VCCO_68, L10 VREF_66, L14 VREF_68, L16 VCCO_68, L26 VCCO_65, M23 VCCO_65, N20 VCCO_65, P27 VCCO_65, R24 VCCO_65, T21 VCCO_47, U28 VCCO_47, V24 VREF_47, V25 VCCO_47, W22 VCCO_47, W32 VCCO_48, Y29 VCCO_48
part X pins: AA1 GND, AA2 GND, AA5 GND, AD4 GND, AD12 GND, AD22 GND, AD32 GND, AE1 GND, AE2 GND, AE5 GND, AE7 GND, AE9 GND, AE19 GND, AE29 GND, AF3 GND, AF4 GND, AF7 GND, AF16 GND, AF26 GND, AG1 GND, AG5 GND, AG7 GND, AG13 GND, AG23 GND, AG33 GND, AH4 GND, AH7 GND, AH10 GND, AH20 GND, AH30 GND, AJ1 GND, AJ2 GND, AJ5 GND, AJ7 GND, AJ17 GND, AJ27 GND, AK3 GND, AK4 GND, AK7 GND, AK14 GND, AK24 GND, AK34 GND, AL1 GND, AL5 GND, AL7 GND, AL11 GND, AL21 GND, AL31 GND, AM4 GND, AM7 GND, AM8 GND, AM18 GND, AM28 GND, AN1 GND, AN2 GND, AN5 GND, AN7 GND, AN15 GND, AN25 GND, AP3 GND, AP4 GND, AP7 GND, AP12 GND, AP22 GND, AP32 GND, P8 GND
part A text: Bank 0 HR; PLM
part B text: Bank 44 HP; PLM
part C text: Bank 45 HP; PLM
part D text: Bank 46 HP; PLM
part E text: Bank 47 HP; PLM
part F text: Bank 48 HP; PLM
part G text: Bank 64 HR
part H text: Bank 65 HR; PLM
part I text: Bank 66 HP
part J text: Bank 67 HP
part K text: Bank 68 HP; PLM
part L text: Bank 224; PLM
part M text: Bank 225; PLM
part N text: Bank 226; PLM
part O text: Bank 227; PLM
part P text: Bank 228; PLM
part Q text: Bank MGTAVCC; PLM
part R text: Bank MGTAVTT; PLM
part S text: Bank VCCAUX; PLM
part T text: Bank VCCINT; PLM
part U text: Bank GND1; PLM
part V text: Bank GND2; PLM
part W text: Banks Power; PLM
part X text: GND3; PLM

## Zener
designator VD?, comment MM3Z  (value not drawn)
Zener diode; Value: MM3Z
footprint SOD-323 (Footprint not found)
pins: A, K

## Вилка. Обозначение
designator X?, comment Обозначение вилки  (value not drawn)  (graphical)
Value: Обозначение вилки

## Вход
designator *  (value not drawn)  (graphical)

## Выключатель
designator S?  (value not drawn)
Value: *
pins: 1, 2, 3, 4

## ГК115
designator G?, comment ГК115-ТС-40 МГц-1Е-8/GT-A-3,3B  (value not drawn)
Value: ГК115-ТС-40 МГц-1Е-8/GT-A-3,3B
footprint GK-115
pins: 1 Uупр, 2 Uоп, 3 Uпит, 4 Uвых, 7 GND
text: GN

## Индикатор 09-0014-61 (ELMA)
designator H?  (value not drawn)
Value: Индикатор 09-0014-61 (ELMA)
pins: 1 AGreen, 2 CGreen, 3 CRed, 4 ARed
text: Зеленый; Красный

## Индикатор 09H0016-63
designator H?  (value not drawn)
Value: Индикатор 09H0016-63
footprint 09H00xx-xx (ELMA double Height LED-Arrays)
pins: 1 AGren, 2 CGreen, 3, 4

## КИПД-18Г-М
designator H?  (value not drawn)
pins: 1, 2, 3

## ОСМ 5584ЛН1АТ
designator D?, comment ОСМ 5584ЛН1АТ АЕЯР.431200.209-07ТУ  (value not drawn)
Value: ОСМ 5584ЛН1АТ АЕЯР.431200.209-07ТУ
pins: 1 A1, 2 Y1, 3 A2, 4 Y2, 5 A3, 6 Y3, 7 GND, 8 Y4, 9 A4, 10 Y5, 11 A5, 12 Y6, 13 A6, 14 VCC

## Реле
designator K?  (value not drawn)
Value: *
pins: 4, 5, 6, 7, 8, 9, 13, 14

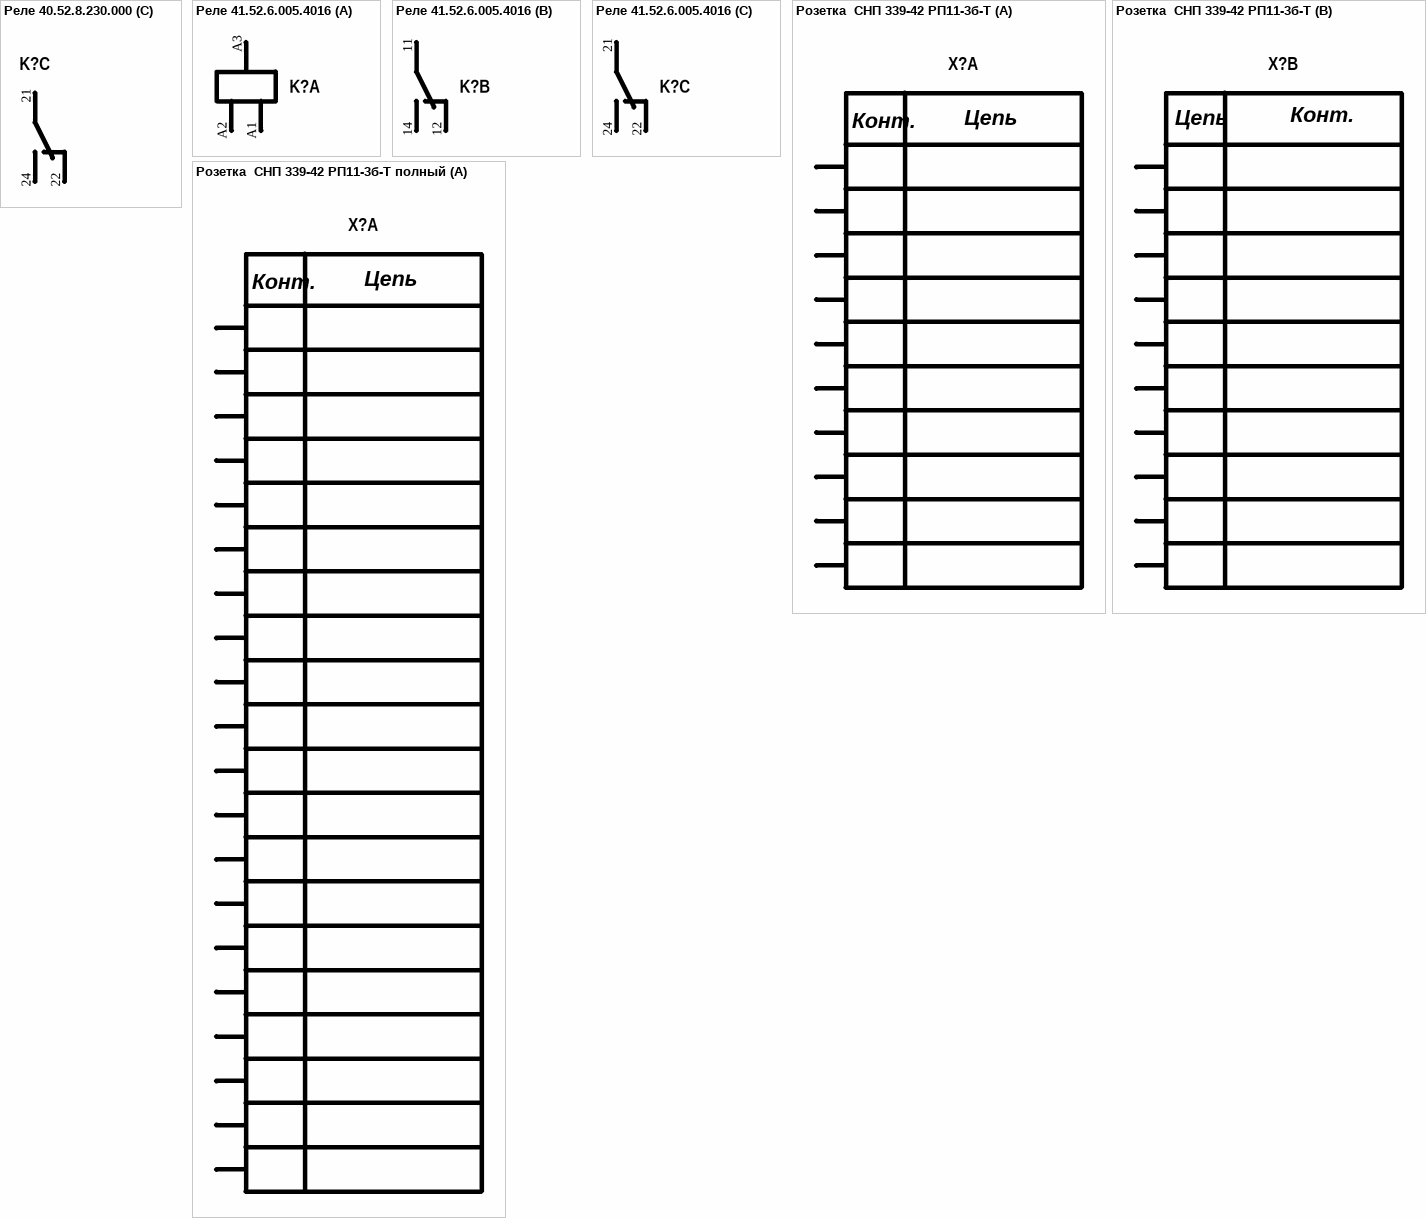
[diagram p27: symbols Реле 40.52.8.230.000 to Розетка  СНП 339-42 РП11-3б-Т полный]

## Реле 40.52.8.230.000
designator K?  (value not drawn)
Value: *
part A pins: A1, A2
part B pins: 11, 12, 14
part C pins: 21, 22, 24

## Реле 41.52.6.005.4016
designator K?  (value not drawn)
Value: *
part A pins: A1, A2, A3
part B pins: 11, 12, 14
part C pins: 21, 22, 24

## Розетка  СНП 339-42 РП11-3б-Т
designator X?  (value not drawn)
Value: Розетка  СНП 339-42 РП11-3б-Т
part A pins: 1, 2, 3, 4, 5, 6, 7, 8, 9, 10
part B pins: 1, 2, 3, 4, 5, 6, 7, 8, 9, 10
part A text: Цепь; Конт.
part B text: Цепь; Конт.

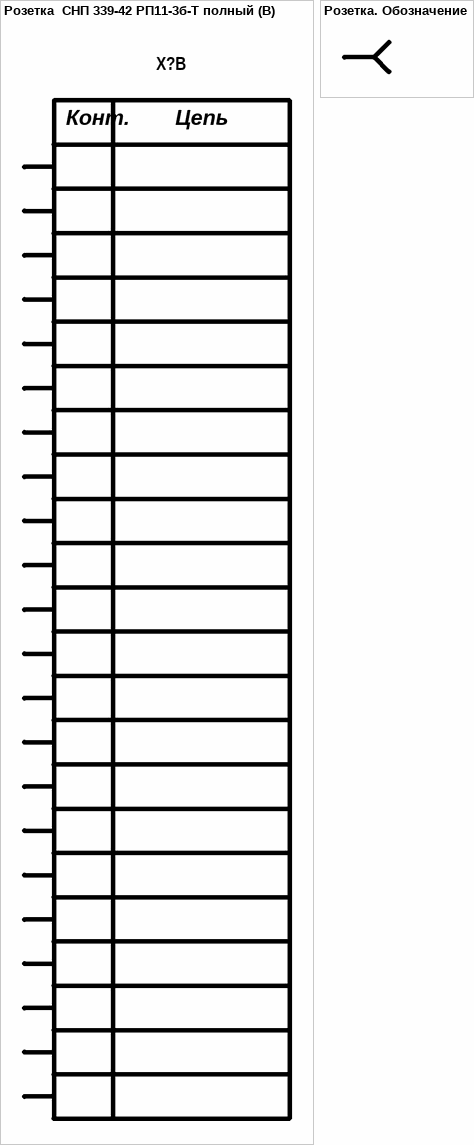
[diagram p28: symbols Розетка  СНП 339-42 РП11-3б-Т полный to Розетка. Обозначение]

## Розетка  СНП 339-42 РП11-3б-Т полный
designator X?, comment Розетка  СНП 339-42 РП11-3б-Т  (value not drawn)
Value: Розетка  СНП 339-42 РП11-3б-Т
part A pins: 1, 2, 3, 4, 5, 6, 7, 8, 9, 10, 11, 12, 13, 14, 15, 16, 17, 18, 19, 20
part B pins: 21, 22, 23, 24, 25, 26, 27, 28, 29, 30, 31, 32, 33, 34, 35, 36, 37, 38, 39, 40, 41, 42
part A text: Цепь; Конт.
part B text: Конт.; Цепь

## Розетка. Обозначение
designator X?  (graphical)